# Altium schematic symbol library 3.3 - STC系列单片机.SchLib: 92 symbols (part 1 of 2)
Pins are listed as number, name and electrical type; pins without a type are passive.

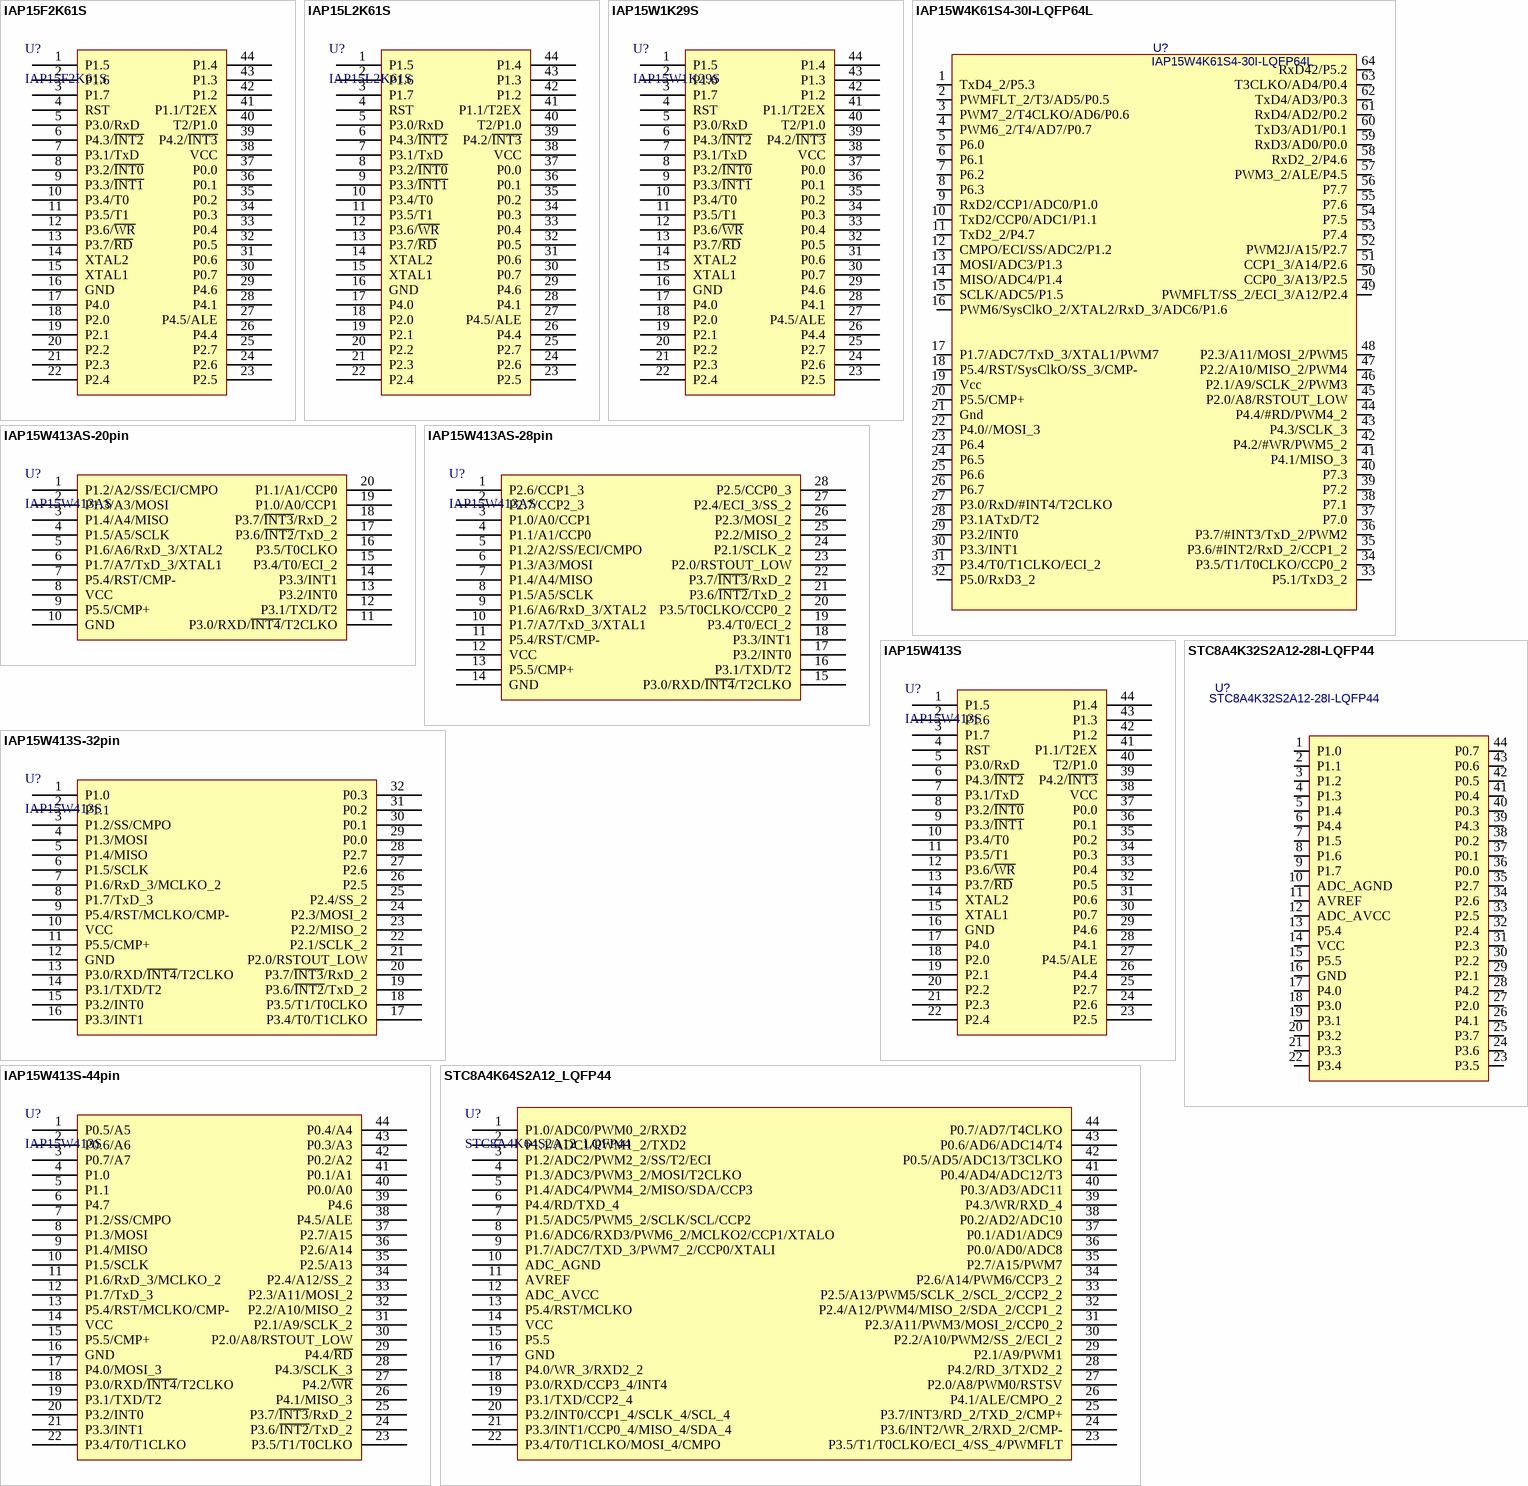
[diagram p0: symbols IAP15F2K61S to STC8A4K64S2A12_LQFP44]

## IAP15F2K61S
designator U?
STC单片机; 联系卖家 免费查找封装: 唯一出售店铺网址https://shop463601444.taobao.com; 封装库来自淘宝卖家：黄晶宝石: 其他店铺购入均为盗版封装库，请立即申请退款，本店现金奖励200~1000元; BOM名称: STC单片机
footprint LQFP44 10X10_N (10*10*1.4(长宽高，除引脚）)
footprint LQFP44 10X10_L (10*10*1.4(长宽高，除引脚）)
footprint LQFP44 10X10_M (10*10*1.4(长宽高，除引脚）)
pins: 1 P1.5, 2 P1.6, 3 P1.7, 4 RST, 5 P3.0/RxD, 6 P4.3/~{INT2}, 7 P3.1/TxD, 8 P3.2/~{INT0}, 9 P3.3/~{INT1}, 10 P3.4/T0, 11 P3.5/T1, 12 P3.6/~{WR}, 13 P3.7/~{RD}, 14 XTAL2, 15 XTAL1, 16 GND, 17 P4.0, 18 P2.0, 19 P2.1, 20 P2.2, 21 P2.3, 22 P2.4, 23 P2.5, 24 P2.6, 25 P2.7, 26 P4.4, 27 P4.5/ALE, 28 P4.1, 29 P4.6, 30 P0.7, 31 P0.6, 32 P0.5, 33 P0.4, 34 P0.3, 35 P0.2, 36 P0.1, 37 P0.0, 38 VCC, 39 P4.2/~{INT3}, 40 T2/P1.0, 41 P1.1/T2EX, 42 P1.2, 43 P1.3, 44 P1.4

## IAP15L2K61S
designator U?
STC单片机; 联系卖家 免费查找封装: 唯一出售店铺网址https://shop463601444.taobao.com; 封装库来自淘宝卖家：黄晶宝石: 其他店铺购入均为盗版封装库，请立即申请退款，本店现金奖励200~1000元; BOM名称: STC单片机
footprint LQFP44 10X10_N (10*10*1.4(长宽高，除引脚）)
footprint LQFP44 10X10_L (10*10*1.4(长宽高，除引脚）)
footprint LQFP44 10X10_M (10*10*1.4(长宽高，除引脚）)
pins: 1 P1.5, 2 P1.6, 3 P1.7, 4 RST, 5 P3.0/RxD, 6 P4.3/~{INT2}, 7 P3.1/TxD, 8 P3.2/~{INT0}, 9 P3.3/~{INT1}, 10 P3.4/T0, 11 P3.5/T1, 12 P3.6/~{WR}, 13 P3.7/~{RD}, 14 XTAL2, 15 XTAL1, 16 GND, 17 P4.0, 18 P2.0, 19 P2.1, 20 P2.2, 21 P2.3, 22 P2.4, 23 P2.5, 24 P2.6, 25 P2.7, 26 P4.4, 27 P4.5/ALE, 28 P4.1, 29 P4.6, 30 P0.7, 31 P0.6, 32 P0.5, 33 P0.4, 34 P0.3, 35 P0.2, 36 P0.1, 37 P0.0, 38 VCC, 39 P4.2/~{INT3}, 40 T2/P1.0, 41 P1.1/T2EX, 42 P1.2, 43 P1.3, 44 P1.4

## IAP15W1K29S
designator U?
STC单片机; 联系卖家 免费查找封装: 唯一出售店铺网址https://shop463601444.taobao.com; 封装库来自淘宝卖家：黄晶宝石: 其他店铺购入均为盗版封装库，请立即申请退款，本店现金奖励200~1000元; BOM名称: STC单片机
footprint LQFP44 10X10_N (10*10*1.4(长宽高，除引脚）)
footprint LQFP44 10X10_L (10*10*1.4(长宽高，除引脚）)
footprint LQFP44 10X10_M (10*10*1.4(长宽高，除引脚）)
pins: 1 P1.5, 2 P1.6, 3 P1.7, 4 RST, 5 P3.0/RxD, 6 P4.3/~{INT2}, 7 P3.1/TxD, 8 P3.2/~{INT0}, 9 P3.3/~{INT1}, 10 P3.4/T0, 11 P3.5/T1, 12 P3.6/~{WR}, 13 P3.7/~{RD}, 14 XTAL2, 15 XTAL1, 16 GND, 17 P4.0, 18 P2.0, 19 P2.1, 20 P2.2, 21 P2.3, 22 P2.4, 23 P2.5, 24 P2.6, 25 P2.7, 26 P4.4, 27 P4.5/ALE, 28 P4.1, 29 P4.6, 30 P0.7, 31 P0.6, 32 P0.5, 33 P0.4, 34 P0.3, 35 P0.2, 36 P0.1, 37 P0.0, 38 VCC, 39 P4.2/~{INT3}, 40 T2/P1.0, 41 P1.1/T2EX, 42 P1.2, 43 P1.3, 44 P1.4

## IAP15W4K61S4-30I-LQFP64L
designator U?
STC单片机; 联系卖家 免费查找封装: 唯一出售店铺网址https://shop463601444.taobao.com; 封装库来自淘宝卖家：黄晶宝石: 其他店铺购入均为盗版封装库，请立即申请退款，本店现金奖励200~1000元; BOM名称: IAP15W4K61S4-30I-LQFP64L
footprint LQFP64-P80 (14x14mm，0.8mm       淘宝ID:黄晶宝石)
pins: 1 TxD4_2/P5.3, 2 PWMFLT_2/T3/AD5/P0.5, 3 PWM7_2/T4CLKO/AD6/P0.6, 4 PWM6_2/T4/AD7/P0.7, 5 P6.0, 6 P6.1, 7 P6.2, 8 P6.3, 9 RxD2/CCP1/ADC0/P1.0, 10 TxD2/CCP0/ADC1/P1.1, 11 TxD2_2/P4.7, 12 CMPO/ECI/SS/ADC2/P1.2, 13 MOSI/ADC3/P1.3, 14 MISO/ADC4/P1.4, 15 SCLK/ADC5/P1.5, 16 PWM6/SysClkO_2/XTAL2/RxD_3/ADC6/P1.6, 17 P1.7/ADC7/TxD_3/XTAL1/PWM7, 18 P5.4/RST/SysClkO/SS_3/CMP-, 19 Vcc, 20 P5.5/CMP+, 21 Gnd, 22 P4.0//MOSI_3, 23 P6.4, 24 P6.5, 25 P6.6, 26 P6.7, 27 P3.0/RxD/#INT4/T2CLKO, 28 P3.1ATxD/T2, 29 P3.2/INT0, 30 P3.3/INT1, 31 P3.4/T0/T1CLKO/ECI_2, 32 P5.0/RxD3_2, 33 P5.1/TxD3_2, 34 P3.5/T1/T0CLKO/CCP0_2, 35 P3.6/#INT2/RxD_2/CCP1_2, 36 P3.7/#INT3/TxD_2/PWM2, 37 P7.0, 38 P7.1, 39 P7.2, 40 P7.3, 41 P4.1/MISO_3, 42 P4.2/#WR/PWM5_2, 43 P4.3/SCLK_3, 44 P4.4/#RD/PWM4_2, 45 P2.0/A8/RSTOUT_LOW, 46 P2.1/A9/SCLK_2/PWM3, 47 P2.2/A10/MISO_2/PWM4, 48 P2.3/A11/MOSI_2/PWM5, 49 PWMFLT/SS_2/ECI_3/A12/P2.4, 50 CCP0_3/A13/P2.5, 51 CCP1_3/A14/P2.6, 52 PWM2J/A15/P2.7, 53 P7.4, 54 P7.5, 55 P7.6, 56 P7.7, 57 PWM3_2/ALE/P4.5, 58 RxD2_2/P4.6, 59 RxD3/AD0/P0.0, 60 TxD3/AD1/P0.1, 61 RxD4/AD2/P0.2, 62 TxD4/AD3/P0.3, 63 T3CLKO/AD4/P0.4, 64 RxD42/P5.2

## IAP15W413AS-20pin
designator U?, comment IAP15W413AS
STC单片机; 联系卖家 免费查找封装: 唯一出售店铺网址https://shop463601444.taobao.com; 封装库来自淘宝卖家：黄晶宝石: 其他店铺购入均为盗版封装库，请立即申请退款，本店现金奖励200~1000元; BOM名称: STC单片机
footprint DIP20-300 (26.4*7.6*3.8(长宽高）)
footprint SOP20_L (13*10.6*2.6（长宽高）)
footprint SOP20_N (13*10.6*2.6（长宽高）)
footprint SOP20_M (13*10.6*2.6（长宽高）)
pins: 1 P1.2/A2/SS/ECI/CMPO, 2 P1.3/A3/MOSI, 3 P1.4/A4/MISO, 4 P1.5/A5/SCLK, 5 P1.6/A6/RxD_3/XTAL2, 6 P1.7/A7/TxD_3/XTAL1, 7 P5.4/RST/CMP-, 8 VCC, 9 P5.5/CMP+, 10 GND, 11 P3.0/RXD/~{INT4}/T2CLKO, 12 P3.1/TXD/T2, 13 P3.2/INT0, 14 P3.3/INT1, 15 P3.4/T0/ECI_2, 16 P3.5/T0CLKO, 17 P3.6/~{INT2}/TxD_2, 18 P3.7/~{INT3}/RxD_2, 19 P1.0/A0/CCP1, 20 P1.1/A1/CCP0

## IAP15W413AS-28pin
designator U?, comment IAP15W413AS
STC单片机; 联系卖家 免费查找封装: 唯一出售店铺网址https://shop463601444.taobao.com; 封装库来自淘宝卖家：黄晶宝石: 其他店铺购入均为盗版封装库，请立即申请退款，本店现金奖励200~1000元; BOM名称: STC单片机
footprint DIP28-400 (36*10.16*3.8(长宽高）)
footprint SOP28_L (17.9*10.6*2.6mm（长宽高）)
footprint SOP28_N (17.9*10.6*2.6mm（长宽高）)
footprint SOP28_M (17.9*10.6*2.6mm（长宽高）)
pins: 1 P2.6/CCP1_3, 2 P2.7/CCP2_3, 3 P1.0/A0/CCP1, 4 P1.1/A1/CCP0, 5 P1.2/A2/SS/ECI/CMPO, 6 P1.3/A3/MOSI, 7 P1.4/A4/MISO, 8 P1.5/A5/SCLK, 9 P1.6/A6/RxD_3/XTAL2, 10 P1.7/A7/TxD_3/XTAL1, 11 P5.4/RST/CMP-, 12 VCC, 13 P5.5/CMP+, 14 GND, 15 P3.0/RXD/~{INT4}/T2CLKO, 16 P3.1/TXD/T2, 17 P3.2/INT0, 18 P3.3/INT1, 19 P3.4/T0/ECI_2, 20 P3.5/T0CLKO/CCP0_2, 21 P3.6/~{INT2}/TxD_2, 22 P3.7/~{INT3}/RxD_2, 23 P2.0/RSTOUT_LOW, 24 P2.1/SCLK_2, 25 P2.2/MISO_2, 26 P2.3/MOSI_2, 27 P2.4/ECI_3/SS_2, 28 P2.5/CCP0_3

## IAP15W413S
designator U?
STC单片机; 联系卖家 免费查找封装: 唯一出售店铺网址https://shop463601444.taobao.com; 封装库来自淘宝卖家：黄晶宝石: 其他店铺购入均为盗版封装库，请立即申请退款，本店现金奖励200~1000元; BOM名称: STC单片机
footprint LQFP44 10X10_N (10*10*1.4(长宽高，除引脚）)
footprint LQFP44 10X10_L (10*10*1.4(长宽高，除引脚）)
footprint LQFP44 10X10_M (10*10*1.4(长宽高，除引脚）)
pins: 1 P1.5, 2 P1.6, 3 P1.7, 4 RST, 5 P3.0/RxD, 6 P4.3/~{INT2}, 7 P3.1/TxD, 8 P3.2/~{INT0}, 9 P3.3/~{INT1}, 10 P3.4/T0, 11 P3.5/T1, 12 P3.6/~{WR}, 13 P3.7/~{RD}, 14 XTAL2, 15 XTAL1, 16 GND, 17 P4.0, 18 P2.0, 19 P2.1, 20 P2.2, 21 P2.3, 22 P2.4, 23 P2.5, 24 P2.6, 25 P2.7, 26 P4.4, 27 P4.5/ALE, 28 P4.1, 29 P4.6, 30 P0.7, 31 P0.6, 32 P0.5, 33 P0.4, 34 P0.3, 35 P0.2, 36 P0.1, 37 P0.0, 38 VCC, 39 P4.2/~{INT3}, 40 T2/P1.0, 41 P1.1/T2EX, 42 P1.2, 43 P1.3, 44 P1.4

## IAP15W413S-32pin
designator U?, comment IAP15W413S
STC单片机; 联系卖家 免费查找封装: 唯一出售店铺网址https://shop463601444.taobao.com; 封装库来自淘宝卖家：黄晶宝石: 其他店铺购入均为盗版封装库，请立即申请退款，本店现金奖励200~1000元; BOM名称: STC单片机
footprint LQFP32 7x7_L (7*7*1.4(长宽高，除引脚）)
footprint LQFP32 7x7_N (7*7*1.4(长宽高，除引脚）)
footprint LQFP32 7x7_M (7*7*1.4(长宽高，除引脚）)
pins: 1 P1.0, 2 P1.1, 3 P1.2/SS/CMPO, 4 P1.3/MOSI, 5 P1.4/MISO, 6 P1.5/SCLK, 7 P1.6/RxD_3/MCLKO_2, 8 P1.7/TxD_3, 9 P5.4/RST/MCLKO/CMP-, 10 VCC, 11 P5.5/CMP+, 12 GND, 13 P3.0/RXD/~{INT4}/T2CLKO, 14 P3.1/TXD/T2, 15 P3.2/INT0, 16 P3.3/INT1, 17 P3.4/T0/T1CLKO, 18 P3.5/T1/T0CLKO, 19 P3.6/~{INT2}/TxD_2, 20 P3.7/~{INT3}/RxD_2, 21 P2.0/RSTOUT_LOW, 22 P2.1/SCLK_2, 23 P2.2/MISO_2, 24 P2.3/MOSI_2, 25 P2.4/SS_2, 26 P2.5, 27 P2.6, 28 P2.7, 29 P0.0, 30 P0.1, 31 P0.2, 32 P0.3

## IAP15W413S-44pin
designator U?, comment IAP15W413S
STC单片机; 联系卖家 免费查找封装: 唯一出售店铺网址https://shop463601444.taobao.com; 封装库来自淘宝卖家：黄晶宝石: 其他店铺购入均为盗版封装库，请立即申请退款，本店现金奖励200~1000元; BOM名称: STC单片机
footprint LQFP44 10x10_L (10*10*1.4(长宽高，除引脚）)
footprint LQFP44 10x10_N (10*10*1.4(长宽高，除引脚）)
footprint LQFP44 10x10_M (10*10*1.4(长宽高，除引脚）)
pins: 1 P0.5/A5, 2 P0.6/A6, 3 P0.7/A7, 4 P1.0, 5 P1.1, 6 P4.7, 7 P1.2/SS/CMPO, 8 P1.3/MOSI, 9 P1.4/MISO, 10 P1.5/SCLK, 11 P1.6/RxD_3/MCLKO_2, 12 P1.7/TxD_3, 13 P5.4/RST/MCLKO/CMP-, 14 VCC, 15 P5.5/CMP+, 16 GND, 17 P4.0/MOSI_3, 18 P3.0/RXD/~{INT4}/T2CLKO, 19 P3.1/TXD/T2, 20 P3.2/INT0, 21 P3.3/INT1, 22 P3.4/T0/T1CLKO, 23 P3.5/T1/T0CLKO, 24 P3.6/~{INT2}/TxD_2, 25 P3.7/~{INT3}/RxD_2, 26 P4.1/MISO_3, 27 P4.2/~{WR}, 28 P4.3/SCLK_3, 29 P4.4/~{RD}, 30 P2.0/A8/RSTOUT_LOW, 31 P2.1/A9/SCLK_2, 32 P2.2/A10/MISO_2, 33 P2.3/A11/MOSI_2, 34 P2.4/A12/SS_2, 35 P2.5/A13, 36 P2.6/A14, 37 P2.7/A15, 38 P4.5/ALE, 39 P4.6, 40 P0.0/A0, 41 P0.1/A1, 42 P0.2/A2, 43 P0.3/A3, 44 P0.4/A4

## STC8A4K32S2A12-28I-LQFP44
designator U?
STC单片机; 联系卖家 免费查找封装: 唯一出售店铺网址https://shop463601444.taobao.com; 封装库来自淘宝卖家：黄晶宝石: 其他店铺购入均为盗版封装库，请立即申请退款，本店现金奖励200~1000元; BOM名称: STC单片机
footprint LQFP44_N (44脚，体宽10x10mm，脚距0.8mm)
pins: 1 P1.0, 2 P1.1, 3 P1.2, 4 P1.3, 5 P1.4, 6 P4.4, 7 P1.5, 8 P1.6, 9 P1.7, 10 ADC_AGND, 11 AVREF, 12 ADC_AVCC, 13 P5.4, 14 VCC, 15 P5.5, 16 GND, 17 P4.0, 18 P3.0, 19 P3.1, 20 P3.2, 21 P3.3, 22 P3.4, 23 P3.5, 24 P3.6, 25 P3.7, 26 P4.1, 27 P2.0, 28 P4.2, 29 P2.1, 30 P2.2, 31 P2.3, 32 P2.4, 33 P2.5, 34 P2.6, 35 P2.7, 36 P0.0, 37 P0.1, 38 P0.2, 39 P4.3, 40 P0.3, 41 P0.4, 42 P0.5, 43 P0.6, 44 P0.7

## STC8A4K64S2A12_LQFP44
designator U?
STC单片机; 封装库来自淘宝卖家：黄晶宝石: 其他店铺购入均为盗版封装库，请立即申请退款，本店现金奖励200~1000元; 联系卖家 免费查找封装: 唯一出售店铺网址https://shop463601444.taobao.com; BOM名称: STC单片机
footprint LQFP44_P80 (44脚，体宽10x10mm，脚距0.8mm)
pins: 1 P1.0/ADC0/PWM0_2/RXD2, 2 P1.1/ADC1/PWM1_2/TXD2, 3 P1.2/ADC2/PWM2_2/SS/T2/ECI, 4 P1.3/ADC3/PWM3_2/MOSI/T2CLKO, 5 P1.4/ADC4/PWM4_2/MISO/SDA/CCP3, 6 P4.4/RD/TXD_4, 7 P1.5/ADC5/PWM5_2/SCLK/SCL/CCP2, 8 P1.6/ADC6/RXD3/PWM6_2/MCLKO2/CCP1/XTALO, 9 P1.7/ADC7/TXD_3/PWM7_2/CCP0/XTALI, 10 ADC_AGND, 11 AVREF, 12 ADC_AVCC, 13 P5.4/RST/MCLKO, 14 VCC, 15 P5.5, 16 GND, 17 P4.0/WR_3/RXD2_2, 18 P3.0/RXD/CCP3_4/INT4, 19 P3.1/TXD/CCP2_4, 20 P3.2/INT0/CCP1_4/SCLK_4/SCL_4, 21 P3.3/INT1/CCP0_4/MISO_4/SDA_4, 22 P3.4/T0/T1CLKO/MOSI_4/CMPO, 23 P3.5/T1/T0CLKO/ECI_4/SS_4/PWMFLT, 24 P3.6/INT2/WR_2/RXD_2/CMP-, 25 P3.7/INT3/RD_2/TXD_2/CMP+, 26 P4.1/ALE/CMPO_2, 27 P2.0/A8/PWM0/RSTSV, 28 P4.2/RD_3/TXD2_2, 29 P2.1/A9/PWM1, 30 P2.2/A10/PWM2/SS_2/ECI_2, 31 P2.3/A11/PWM3/MOSI_2/CCP0_2, 32 P2.4/A12/PWM4/MISO_2/SDA_2/CCP1_2, 33 P2.5/A13/PWM5/SCLK_2/SCL_2/CCP2_2, 34 P2.6/A14/PWM6/CCP3_2, 35 P2.7/A15/PWM7, 36 P0.0/AD0/ADC8, 37 P0.1/AD1/ADC9, 38 P0.2/AD2/ADC10, 39 P4.3/WR/RXD_4, 40 P0.3/AD3/ADC11, 41 P0.4/AD4/ADC12/T3, 42 P0.5/AD5/ADC13/T3CLKO, 43 P0.6/AD6/ADC14/T4, 44 P0.7/AD7/T4CLKO

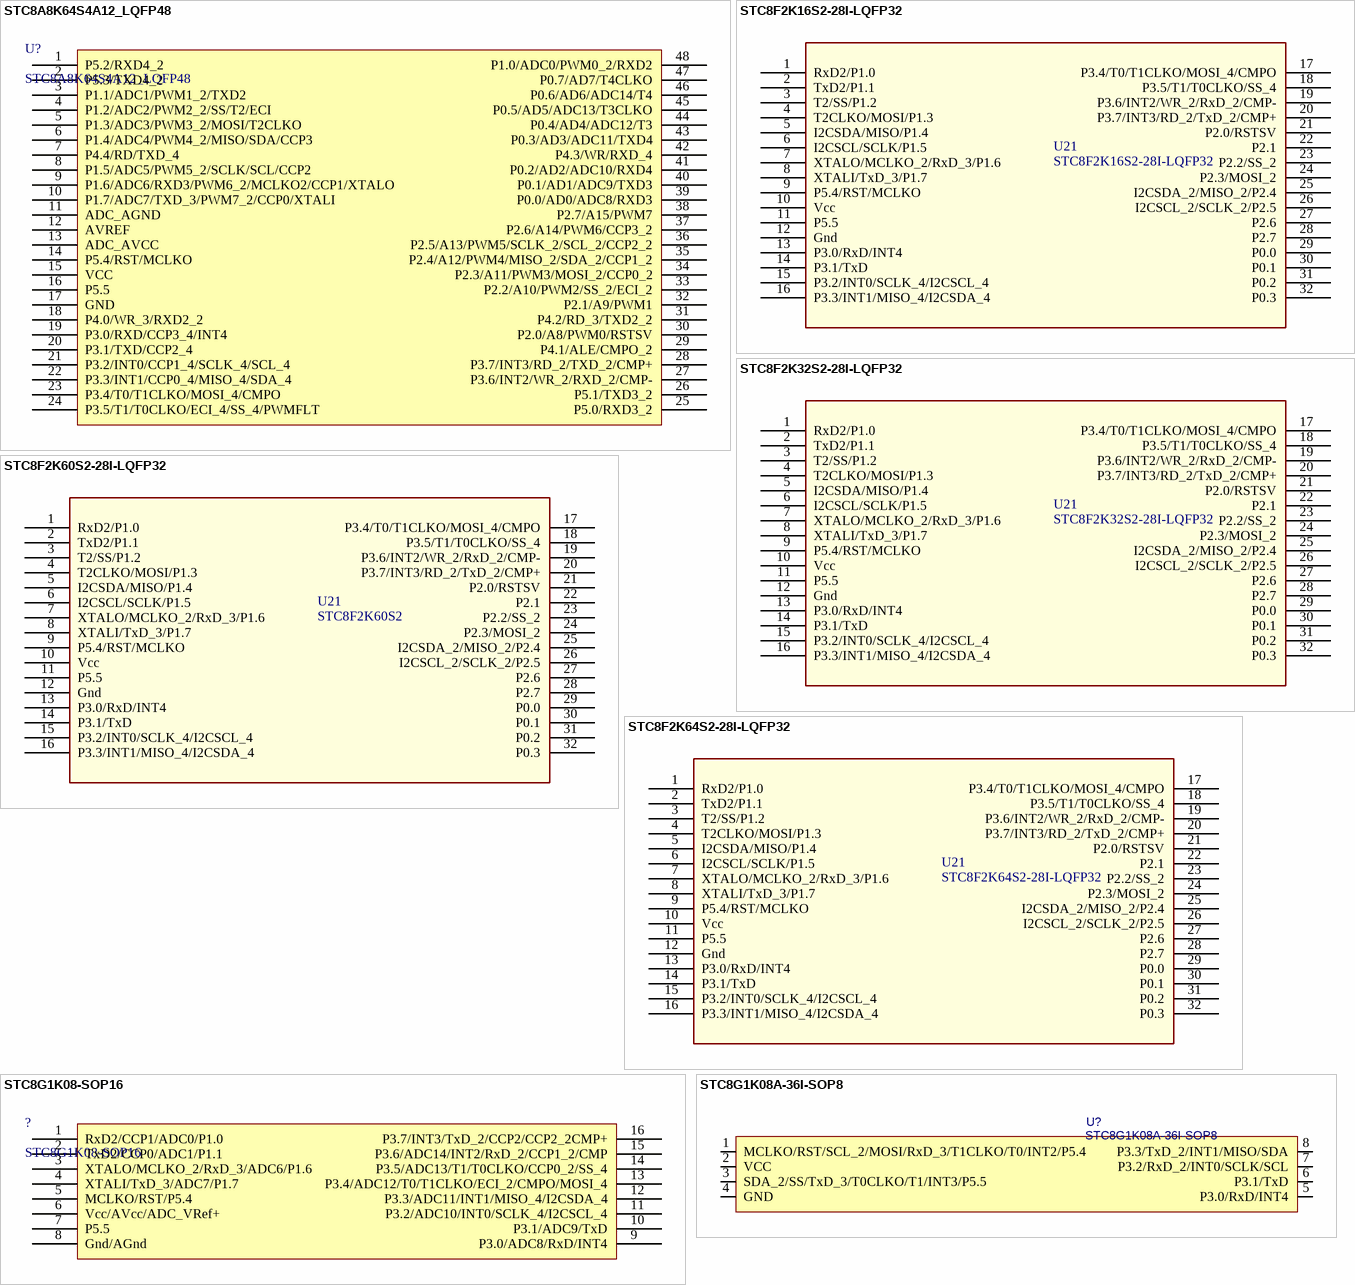
[diagram p1: symbols STC8A8K64S4A12_LQFP48 to STC8G1K08A-36I-SOP8]

## STC8A8K64S4A12_LQFP48
designator U?
STC单片机; 封装库来自淘宝卖家：黄晶宝石: 其他店铺购入均为盗版封装库，请立即申请退款，本店现金奖励200~1000元; 联系卖家 免费查找封装: 唯一出售店铺网址https://shop463601444.taobao.com; BOM名称: STC单片机
footprint STM-LQFP48_M (QFP, 48-Leads, Body 7x7mm, Pitch 0.5mm, IPC Low Density联系卖家免费查找封装)
footprint STM-LQFP48_N (QFP, 48-Leads, Body 7x7mm, Pitch 0.5mm, IPC Medium Density封装库来自淘宝 ID：黄晶宝石)
footprint STM-LQFP48_L (QFP, 48-Leads, Body 7x7mm, Pitch 0.5mm, IPC High Density)
pins: 1 P5.2/RXD4_2, 2 P5.3/TXD4_2, 3 P1.1/ADC1/PWM1_2/TXD2, 4 P1.2/ADC2/PWM2_2/SS/T2/ECI, 5 P1.3/ADC3/PWM3_2/MOSI/T2CLKO, 6 P1.4/ADC4/PWM4_2/MISO/SDA/CCP3, 7 P4.4/RD/TXD_4, 8 P1.5/ADC5/PWM5_2/SCLK/SCL/CCP2, 9 P1.6/ADC6/RXD3/PWM6_2/MCLKO2/CCP1/XTALO, 10 P1.7/ADC7/TXD_3/PWM7_2/CCP0/XTALI, 11 ADC_AGND, 12 AVREF, 13 ADC_AVCC, 14 P5.4/RST/MCLKO, 15 VCC, 16 P5.5, 17 GND, 18 P4.0/WR_3/RXD2_2, 19 P3.0/RXD/CCP3_4/INT4, 20 P3.1/TXD/CCP2_4, 21 P3.2/INT0/CCP1_4/SCLK_4/SCL_4, 22 P3.3/INT1/CCP0_4/MISO_4/SDA_4, 23 P3.4/T0/T1CLKO/MOSI_4/CMPO, 24 P3.5/T1/T0CLKO/ECI_4/SS_4/PWMFLT, 25 P5.0/RXD3_2, 26 P5.1/TXD3_2, 27 P3.6/INT2/WR_2/RXD_2/CMP-, 28 P3.7/INT3/RD_2/TXD_2/CMP+, 29 P4.1/ALE/CMPO_2, 30 P2.0/A8/PWM0/RSTSV, 31 P4.2/RD_3/TXD2_2, 32 P2.1/A9/PWM1, 33 P2.2/A10/PWM2/SS_2/ECI_2, 34 P2.3/A11/PWM3/MOSI_2/CCP0_2, 35 P2.4/A12/PWM4/MISO_2/SDA_2/CCP1_2, 36 P2.5/A13/PWM5/SCLK_2/SCL_2/CCP2_2, 37 P2.6/A14/PWM6/CCP3_2, 38 P2.7/A15/PWM7, 39 P0.0/AD0/ADC8/RXD3, 40 P0.1/AD1/ADC9/TXD3, 41 P0.2/AD2/ADC10/RXD4, 42 P4.3/WR/RXD_4, 43 P0.3/AD3/ADC11/TXD4, 44 P0.4/AD4/ADC12/T3, 45 P0.5/AD5/ADC13/T3CLKO, 46 P0.6/AD6/ADC14/T4, 47 P0.7/AD7/T4CLKO, 48 P1.0/ADC0/PWM0_2/RXD2

## STC8F2K16S2-28I-LQFP32
designator U21
STC单片机; 联系卖家 免费查找封装: 唯一出售店铺网址https://shop463601444.taobao.com; 封装库来自淘宝卖家：黄晶宝石: 其他店铺购入均为盗版封装库，请立即申请退款，本店现金奖励200~1000元; BOM名称: STC单片机
footprint STM-LQFP32_N (QFP, 32-Leads, Body 7x7mm, Pitch 0.8mm, IPC Medium Density封装库来自淘宝 ID：黄晶宝石)
pins: 1 RxD2/P1.0, 2 TxD2/P1.1, 3 T2/SS/P1.2, 4 T2CLKO/MOSI/P1.3, 5 I2CSDA/MISO/P1.4, 6 I2CSCL/SCLK/P1.5, 7 XTALO/MCLKO_2/RxD_3/P1.6, 8 XTALI/TxD_3/P1.7, 9 P5.4/RST/MCLKO, 10 Vcc, 11 P5.5, 12 Gnd, 13 P3.0/RxD/INT4, 14 P3.1/TxD, 15 P3.2/INT0/SCLK_4/I2CSCL_4, 16 P3.3/INT1/MISO_4/I2CSDA_4, 17 P3.4/T0/T1CLKO/MOSI_4/CMPO, 18 P3.5/T1/T0CLKO/SS_4, 19 P3.6/INT2/WR_2/RxD_2/CMP-, 20 P3.7/INT3/RD_2/TxD_2/CMP+, 21 P2.0/RSTSV, 22 P2.1, 23 P2.2/SS_2, 24 P2.3/MOSI_2, 25 I2CSDA_2/MISO_2/P2.4, 26 I2CSCL_2/SCLK_2/P2.5, 27 P2.6, 28 P2.7, 29 P0.0, 30 P0.1, 31 P0.2, 32 P0.3

## STC8F2K32S2-28I-LQFP32
designator U21
STC单片机; 联系卖家 免费查找封装: 唯一出售店铺网址https://shop463601444.taobao.com; 封装库来自淘宝卖家：黄晶宝石: 其他店铺购入均为盗版封装库，请立即申请退款，本店现金奖励200~1000元; BOM名称: STC单片机
footprint STM-LQFP32_N (QFP, 32-Leads, Body 7x7mm, Pitch 0.8mm, IPC Medium Density封装库来自淘宝 ID：黄晶宝石)
pins: 1 RxD2/P1.0, 2 TxD2/P1.1, 3 T2/SS/P1.2, 4 T2CLKO/MOSI/P1.3, 5 I2CSDA/MISO/P1.4, 6 I2CSCL/SCLK/P1.5, 7 XTALO/MCLKO_2/RxD_3/P1.6, 8 XTALI/TxD_3/P1.7, 9 P5.4/RST/MCLKO, 10 Vcc, 11 P5.5, 12 Gnd, 13 P3.0/RxD/INT4, 14 P3.1/TxD, 15 P3.2/INT0/SCLK_4/I2CSCL_4, 16 P3.3/INT1/MISO_4/I2CSDA_4, 17 P3.4/T0/T1CLKO/MOSI_4/CMPO, 18 P3.5/T1/T0CLKO/SS_4, 19 P3.6/INT2/WR_2/RxD_2/CMP-, 20 P3.7/INT3/RD_2/TxD_2/CMP+, 21 P2.0/RSTSV, 22 P2.1, 23 P2.2/SS_2, 24 P2.3/MOSI_2, 25 I2CSDA_2/MISO_2/P2.4, 26 I2CSCL_2/SCLK_2/P2.5, 27 P2.6, 28 P2.7, 29 P0.0, 30 P0.1, 31 P0.2, 32 P0.3

## STC8F2K60S2-28I-LQFP32
designator U21, comment STC8F2K60S2
STC单片机; 联系卖家 免费查找封装: 唯一出售店铺网址https://shop463601444.taobao.com; 封装库来自淘宝卖家：黄晶宝石: 其他店铺购入均为盗版封装库，请立即申请退款，本店现金奖励200~1000元; BOM名称: STC单片机
footprint STM-LQFP32_N (QFP, 32-Leads, Body 7x7mm, Pitch 0.8mm, IPC Medium Density封装库来自淘宝 ID：黄晶宝石)
pins: 1 RxD2/P1.0, 2 TxD2/P1.1, 3 T2/SS/P1.2, 4 T2CLKO/MOSI/P1.3, 5 I2CSDA/MISO/P1.4, 6 I2CSCL/SCLK/P1.5, 7 XTALO/MCLKO_2/RxD_3/P1.6, 8 XTALI/TxD_3/P1.7, 9 P5.4/RST/MCLKO, 10 Vcc, 11 P5.5, 12 Gnd, 13 P3.0/RxD/INT4, 14 P3.1/TxD, 15 P3.2/INT0/SCLK_4/I2CSCL_4, 16 P3.3/INT1/MISO_4/I2CSDA_4, 17 P3.4/T0/T1CLKO/MOSI_4/CMPO, 18 P3.5/T1/T0CLKO/SS_4, 19 P3.6/INT2/WR_2/RxD_2/CMP-, 20 P3.7/INT3/RD_2/TxD_2/CMP+, 21 P2.0/RSTSV, 22 P2.1, 23 P2.2/SS_2, 24 P2.3/MOSI_2, 25 I2CSDA_2/MISO_2/P2.4, 26 I2CSCL_2/SCLK_2/P2.5, 27 P2.6, 28 P2.7, 29 P0.0, 30 P0.1, 31 P0.2, 32 P0.3

## STC8F2K64S2-28I-LQFP32
designator U21
STC单片机; 联系卖家 免费查找封装: 唯一出售店铺网址https://shop463601444.taobao.com; 封装库来自淘宝卖家：黄晶宝石: 其他店铺购入均为盗版封装库，请立即申请退款，本店现金奖励200~1000元; BOM名称: STC单片机
footprint STM-LQFP32_N (QFP, 32-Leads, Body 7x7mm, Pitch 0.8mm, IPC Medium Density封装库来自淘宝 ID：黄晶宝石)
pins: 1 RxD2/P1.0, 2 TxD2/P1.1, 3 T2/SS/P1.2, 4 T2CLKO/MOSI/P1.3, 5 I2CSDA/MISO/P1.4, 6 I2CSCL/SCLK/P1.5, 7 XTALO/MCLKO_2/RxD_3/P1.6, 8 XTALI/TxD_3/P1.7, 9 P5.4/RST/MCLKO, 10 Vcc, 11 P5.5, 12 Gnd, 13 P3.0/RxD/INT4, 14 P3.1/TxD, 15 P3.2/INT0/SCLK_4/I2CSCL_4, 16 P3.3/INT1/MISO_4/I2CSDA_4, 17 P3.4/T0/T1CLKO/MOSI_4/CMPO, 18 P3.5/T1/T0CLKO/SS_4, 19 P3.6/INT2/WR_2/RxD_2/CMP-, 20 P3.7/INT3/RD_2/TxD_2/CMP+, 21 P2.0/RSTSV, 22 P2.1, 23 P2.2/SS_2, 24 P2.3/MOSI_2, 25 I2CSDA_2/MISO_2/P2.4, 26 I2CSCL_2/SCLK_2/P2.5, 27 P2.6, 28 P2.7, 29 P0.0, 30 P0.1, 31 P0.2, 32 P0.3

## STC8G1K08-SOP16
designator ?
STC单片机; 封装库来自淘宝卖家：黄晶宝石: 其他店铺购入均为盗版封装库，请立即申请退款，本店现金奖励200~1000元; 联系卖家 免费查找封装: 唯一出售店铺网址https://shop463601444.taobao.com; BOM名称: STC单片机
footprint SOIC-16 (联系卖家 免费查找封装)
pins: 1 RxD2/CCP1/ADC0/P1.0, 2 TxD2/CCP0/ADC1/P1.1, 3 XTALO/MCLKO_2/RxD_3/ADC6/P1.6, 4 XTALI/TxD_3/ADC7/P1.7, 5 MCLKO/RST/P5.4, 6 Vcc/AVcc/ADC_VRef+, 7 P5.5, 8 Gnd/AGnd, 9 P3.0/ADC8/RxD/INT4, 10 P3.1/ADC9/TxD, 11 P3.2/ADC10/INT0/SCLK_4/I2CSCL_4, 12 P3.3/ADC11/INT1/MISO_4/I2CSDA_4, 13 P3.4/ADC12/T0/T1CLKO/ECI_2/CMPO/MOSI_4, 14 P3.5/ADC13/T1/T0CLKO/CCP0_2/SS_4, 15 P3.6/ADC14/INT2/RxD_2/CCP1_2/CMP, 16 P3.7/INT3/TxD_2/CCP2/CCP2_2CMP+

## STC8G1K08A-36I-SOP8
designator U?
STC单片机; 封装库来自淘宝卖家：黄晶宝石: 其他店铺购入均为盗版封装库，请立即申请退款，本店现金奖励200~1000元; 联系卖家 免费查找封装: 唯一出售店铺网址https://shop463601444.taobao.com; BOM名称: STC8G1K08A-36I-SOP8
footprint SOIC-8
pins: 1 MCLKO/RST/SCL_2/MOSI/RxD_3/T1CLKO/T0/INT2/P5.4, 2 VCC, 3 SDA_2/SS/TxD_3/T0CLKO/T1/INT3/P5.5, 4 GND, 5 P3.0/RxD/INT4, 6 P3.1/TxD, 7 P3.2/RxD_2/INT0/SCLK/SCL, 8 P3.3/TxD_2/INT1/MISO/SDA

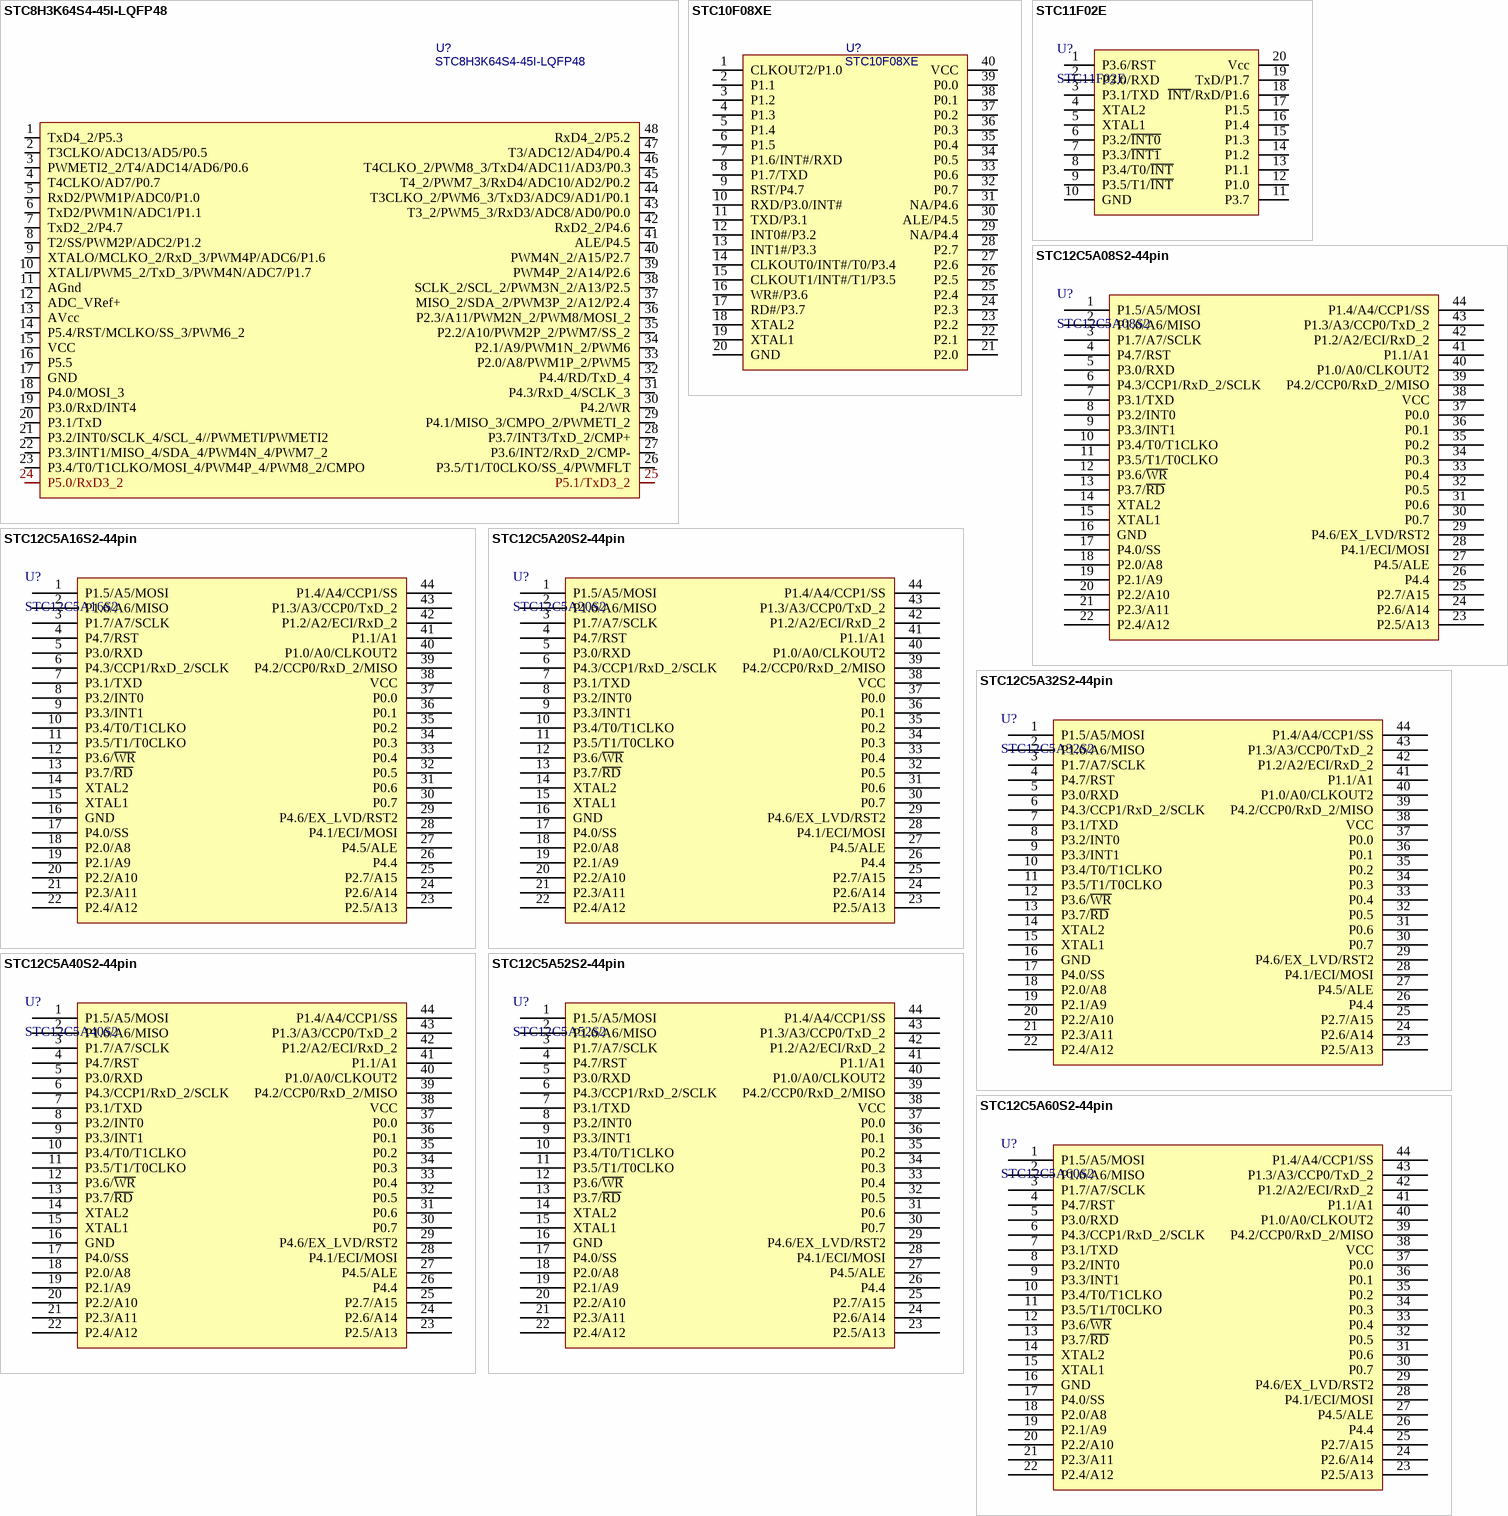
[diagram p2: symbols STC8H3K64S4-45I-LQFP48 to STC12C5A60S2-44pin]

## STC8H3K64S4-45I-LQFP48
designator U?
STC单片机; 封装库来自淘宝卖家：黄晶宝石: 其他店铺购入均为盗版封装库，请立即申请退款，本店现金奖励200~1000元; 联系卖家 免费查找封装: 唯一出售店铺网址https://shop463601444.taobao.com; BOM名称: STC单片机
footprint LQFP48_N (Thin QFP, 48-Leads, Body 7x7mm, Pitch 0.5mm, IPC Medium Density 封装库来自淘宝 ID：黄晶宝石)
footprint LQFP48_L (Thin QFP, 48-Leads, Body 7x7mm, Pitch 0.5mm, IPC High Density  联系卖家 免费查找封装)
footprint LQFP48_M (Thin QFP, 48-Leads, Body 7x7mm, Pitch 0.5mm, IPC Low Density  联系卖家 免费查找封装)
pins: 1 TxD4_2/P5.3, 2 T3CLKO/ADC13/AD5/P0.5, 3 PWMETI2_2/T4/ADC14/AD6/P0.6, 4 T4CLKO/AD7/P0.7, 5 RxD2/PWM1P/ADC0/P1.0, 6 TxD2/PWM1N/ADC1/P1.1, 7 TxD2_2/P4.7, 8 T2/SS/PWM2P/ADC2/P1.2, 9 XTALO/MCLKO_2/RxD_3/PWM4P/ADC6/P1.6, 10 XTALI/PWM5_2/TxD_3/PWM4N/ADC7/P1.7, 11 AGnd, 12 ADC_VRef+, 13 AVcc, 14 P5.4/RST/MCLKO/SS_3/PWM6_2, 15 VCC, 16 P5.5, 17 GND, 18 P4.0/MOSI_3, 19 P3.0/RxD/INT4, 20 P3.1/TxD, 21 P3.2/INT0/SCLK_4/SCL_4//PWMETI/PWMETI2, 22 P3.3/INT1/MISO_4/SDA_4/PWM4N_4/PWM7_2, 23 P3.4/T0/T1CLKO/MOSI_4/PWM4P_4/PWM8_2/CMPO, 24 P5.0/RxD3_2, 25 P5.1/TxD3_2, 26 P3.5/T1/T0CLKO/SS_4/PWMFLT, 27 P3.6/INT2/RxD_2/CMP-, 28 P3.7/INT3/TxD_2/CMP+, 29 P4.1/MISO_3/CMPO_2/PWMETI_2, 30 P4.2/WR, 31 P4.3/RxD_4/SCLK_3, 32 P4.4/RD/TxD_4, 33 P2.0/A8/PWM1P_2/PWM5, 34 P2.1/A9/PWM1N_2/PWM6, 35 P2.2/A10/PWM2P_2/PWM7/SS_2, 36 P2.3/A11/PWM2N_2/PWM8/MOSI_2, 37 MISO_2/SDA_2/PWM3P_2/A12/P2.4, 38 SCLK_2/SCL_2/PWM3N_2/A13/P2.5, 39 PWM4P_2/A14/P2.6, 40 PWM4N_2/A15/P2.7, 41 ALE/P4.5, 42 RxD2_2/P4.6, 43 T3_2/PWM5_3/RxD3/ADC8/AD0/P0.0, 44 T3CLKO_2/PWM6_3/TxD3/ADC9/AD1/P0.1, 45 T4_2/PWM7_3/RxD4/ADC10/AD2/P0.2, 46 T4CLKO_2/PWM8_3/TxD4/ADC11/AD3/P0.3, 47 T3/ADC12/AD4/P0.4, 48 RxD4_2/P5.2

## STC10F08XE
designator U?
STC单片机; 封装库来自淘宝卖家：黄晶宝石: 其他店铺购入均为盗版封装库，请立即申请退款，本店现金奖励200~1000元; 联系卖家 免费查找封装: 唯一出售店铺网址https://shop463601444.taobao.com; BOM名称: STC单片机
footprint DIP-40 (52*15.2*4mm(长宽高)                联系卖家 免费查找封装)
pins: 1 CLKOUT2/P1.0, 2 P1.1, 3 P1.2, 4 P1.3, 5 P1.4, 6 P1.5, 7 P1.6/INT#/RXD, 8 P1.7/TXD, 9 RST/P4.7, 10 RXD/P3.0/INT#, 11 TXD/P3.1, 12 INT0#/P3.2, 13 INT1#/P3.3, 14 CLKOUT0/INT#/T0/P3.4, 15 CLKOUT1/INT#/T1/P3.5, 16 WR#/P3.6, 17 RD#/P3.7, 18 XTAL2, 19 XTAL1, 20 GND, 21 P2.0, 22 P2.1, 23 P2.2, 24 P2.3, 25 P2.4, 26 P2.5, 27 P2.6, 28 P2.7, 29 NA/P4.4, 30 ALE/P4.5, 31 NA/P4.6, 32 P0.7, 33 P0.6, 34 P0.5, 35 P0.4, 36 P0.3, 37 P0.2, 38 P0.1, 39 P0.0, 40 VCC

## STC11F02E
designator U?
STC单片机; 联系卖家 免费查找封装: 唯一出售店铺网址https://shop463601444.taobao.com; 封装库来自淘宝卖家：黄晶宝石: 其他店铺购入均为盗版封装库，请立即申请退款，本店现金奖励200~1000元; BOM名称: STC单片机
footprint DIP20-300 (26.4*7.6*3.8(长宽高）)
footprint SOP20_N (13*10.6*2.6（长宽高）)
footprint SOP20_L (13*10.6*2.6（长宽高）)
footprint SOP20_M (13*10.6*2.6（长宽高）)
pins: 1 P3.6/RST, 2 P3.0/RXD, 3 P3.1/TXD, 4 XTAL2, 5 XTAL1, 6 P3.2/~{INT0}, 7 P3.3/~{INT1}, 8 P3.4/T0/~{INT}, 9 P3.5/T1/~{INT}, 10 GND, 11 P3.7, 12 P1.0, 13 P1.1, 14 P1.2, 15 P1.3, 16 P1.4, 17 P1.5, 18 ~{INT}/RxD/P1.6, 19 TxD/P1.7, 20 Vcc

## STC12C5A08S2-44pin
designator U?, comment STC12C5A08S2
STC单片机; 联系卖家 免费查找封装: 唯一出售店铺网址https://shop463601444.taobao.com; 封装库来自淘宝卖家：黄晶宝石: 其他店铺购入均为盗版封装库，请立即申请退款，本店现金奖励200~1000元; BOM名称: STC单片机
footprint LQFP44 10x10_L (10*10*1.4(长宽高，除引脚）)
footprint LQFP44 10x10_N (10*10*1.4(长宽高，除引脚）)
footprint LQFP44 10x10_M (10*10*1.4(长宽高，除引脚）)
pins: 1 P1.5/A5/MOSI, 2 P1.6/A6/MISO, 3 P1.7/A7/SCLK, 4 P4.7/RST, 5 P3.0/RXD, 6 P4.3/CCP1/RxD_2/SCLK, 7 P3.1/TXD, 8 P3.2/INT0, 9 P3.3/INT1, 10 P3.4/T0/T1CLKO, 11 P3.5/T1/T0CLKO, 12 P3.6/~{WR}, 13 P3.7/~{RD}, 14 XTAL2, 15 XTAL1, 16 GND, 17 P4.0/SS, 18 P2.0/A8, 19 P2.1/A9, 20 P2.2/A10, 21 P2.3/A11, 22 P2.4/A12, 23 P2.5/A13, 24 P2.6/A14, 25 P2.7/A15, 26 P4.4, 27 P4.5/ALE, 28 P4.1/ECI/MOSI, 29 P4.6/EX_LVD/RST2, 30 P0.7, 31 P0.6, 32 P0.5, 33 P0.4, 34 P0.3, 35 P0.2, 36 P0.1, 37 P0.0, 38 VCC, 39 P4.2/CCP0/RxD_2/MISO, 40 P1.0/A0/CLKOUT2, 41 P1.1/A1, 42 P1.2/A2/ECI/RxD_2, 43 P1.3/A3/CCP0/TxD_2, 44 P1.4/A4/CCP1/SS

## STC12C5A16S2-44pin
designator U?, comment STC12C5A16S2
STC单片机; 联系卖家 免费查找封装: 唯一出售店铺网址https://shop463601444.taobao.com; 封装库来自淘宝卖家：黄晶宝石: 其他店铺购入均为盗版封装库，请立即申请退款，本店现金奖励200~1000元; BOM名称: STC单片机
footprint LQFP44 10x10_L (10*10*1.4(长宽高，除引脚）)
footprint LQFP44 10x10_N (10*10*1.4(长宽高，除引脚）)
footprint LQFP44 10x10_M (10*10*1.4(长宽高，除引脚）)
pins: 1 P1.5/A5/MOSI, 2 P1.6/A6/MISO, 3 P1.7/A7/SCLK, 4 P4.7/RST, 5 P3.0/RXD, 6 P4.3/CCP1/RxD_2/SCLK, 7 P3.1/TXD, 8 P3.2/INT0, 9 P3.3/INT1, 10 P3.4/T0/T1CLKO, 11 P3.5/T1/T0CLKO, 12 P3.6/~{WR}, 13 P3.7/~{RD}, 14 XTAL2, 15 XTAL1, 16 GND, 17 P4.0/SS, 18 P2.0/A8, 19 P2.1/A9, 20 P2.2/A10, 21 P2.3/A11, 22 P2.4/A12, 23 P2.5/A13, 24 P2.6/A14, 25 P2.7/A15, 26 P4.4, 27 P4.5/ALE, 28 P4.1/ECI/MOSI, 29 P4.6/EX_LVD/RST2, 30 P0.7, 31 P0.6, 32 P0.5, 33 P0.4, 34 P0.3, 35 P0.2, 36 P0.1, 37 P0.0, 38 VCC, 39 P4.2/CCP0/RxD_2/MISO, 40 P1.0/A0/CLKOUT2, 41 P1.1/A1, 42 P1.2/A2/ECI/RxD_2, 43 P1.3/A3/CCP0/TxD_2, 44 P1.4/A4/CCP1/SS

## STC12C5A20S2-44pin
designator U?, comment STC12C5A20S2
STC单片机; 联系卖家 免费查找封装: 唯一出售店铺网址https://shop463601444.taobao.com; 封装库来自淘宝卖家：黄晶宝石: 其他店铺购入均为盗版封装库，请立即申请退款，本店现金奖励200~1000元; BOM名称: STC单片机
footprint LQFP44 10x10_L (10*10*1.4(长宽高，除引脚）)
footprint LQFP44 10x10_N (10*10*1.4(长宽高，除引脚）)
footprint LQFP44 10x10_M (10*10*1.4(长宽高，除引脚）)
pins: 1 P1.5/A5/MOSI, 2 P1.6/A6/MISO, 3 P1.7/A7/SCLK, 4 P4.7/RST, 5 P3.0/RXD, 6 P4.3/CCP1/RxD_2/SCLK, 7 P3.1/TXD, 8 P3.2/INT0, 9 P3.3/INT1, 10 P3.4/T0/T1CLKO, 11 P3.5/T1/T0CLKO, 12 P3.6/~{WR}, 13 P3.7/~{RD}, 14 XTAL2, 15 XTAL1, 16 GND, 17 P4.0/SS, 18 P2.0/A8, 19 P2.1/A9, 20 P2.2/A10, 21 P2.3/A11, 22 P2.4/A12, 23 P2.5/A13, 24 P2.6/A14, 25 P2.7/A15, 26 P4.4, 27 P4.5/ALE, 28 P4.1/ECI/MOSI, 29 P4.6/EX_LVD/RST2, 30 P0.7, 31 P0.6, 32 P0.5, 33 P0.4, 34 P0.3, 35 P0.2, 36 P0.1, 37 P0.0, 38 VCC, 39 P4.2/CCP0/RxD_2/MISO, 40 P1.0/A0/CLKOUT2, 41 P1.1/A1, 42 P1.2/A2/ECI/RxD_2, 43 P1.3/A3/CCP0/TxD_2, 44 P1.4/A4/CCP1/SS

## STC12C5A32S2-44pin
designator U?, comment STC12C5A32S2
STC单片机; 联系卖家 免费查找封装: 唯一出售店铺网址https://shop463601444.taobao.com; 封装库来自淘宝卖家：黄晶宝石: 其他店铺购入均为盗版封装库，请立即申请退款，本店现金奖励200~1000元; BOM名称: STC单片机
footprint LQFP44 10x10_L (10*10*1.4(长宽高，除引脚）)
footprint LQFP44 10x10_N (10*10*1.4(长宽高，除引脚）)
footprint LQFP44 10x10_M (10*10*1.4(长宽高，除引脚）)
pins: 1 P1.5/A5/MOSI, 2 P1.6/A6/MISO, 3 P1.7/A7/SCLK, 4 P4.7/RST, 5 P3.0/RXD, 6 P4.3/CCP1/RxD_2/SCLK, 7 P3.1/TXD, 8 P3.2/INT0, 9 P3.3/INT1, 10 P3.4/T0/T1CLKO, 11 P3.5/T1/T0CLKO, 12 P3.6/~{WR}, 13 P3.7/~{RD}, 14 XTAL2, 15 XTAL1, 16 GND, 17 P4.0/SS, 18 P2.0/A8, 19 P2.1/A9, 20 P2.2/A10, 21 P2.3/A11, 22 P2.4/A12, 23 P2.5/A13, 24 P2.6/A14, 25 P2.7/A15, 26 P4.4, 27 P4.5/ALE, 28 P4.1/ECI/MOSI, 29 P4.6/EX_LVD/RST2, 30 P0.7, 31 P0.6, 32 P0.5, 33 P0.4, 34 P0.3, 35 P0.2, 36 P0.1, 37 P0.0, 38 VCC, 39 P4.2/CCP0/RxD_2/MISO, 40 P1.0/A0/CLKOUT2, 41 P1.1/A1, 42 P1.2/A2/ECI/RxD_2, 43 P1.3/A3/CCP0/TxD_2, 44 P1.4/A4/CCP1/SS

## STC12C5A40S2-44pin
designator U?, comment STC12C5A40S2
STC单片机; 联系卖家 免费查找封装: 唯一出售店铺网址https://shop463601444.taobao.com; 封装库来自淘宝卖家：黄晶宝石: 其他店铺购入均为盗版封装库，请立即申请退款，本店现金奖励200~1000元; BOM名称: STC单片机
footprint LQFP44 10x10_L (10*10*1.4(长宽高，除引脚）)
footprint LQFP44 10x10_N (10*10*1.4(长宽高，除引脚）)
footprint LQFP44 10x10_M (10*10*1.4(长宽高，除引脚）)
pins: 1 P1.5/A5/MOSI, 2 P1.6/A6/MISO, 3 P1.7/A7/SCLK, 4 P4.7/RST, 5 P3.0/RXD, 6 P4.3/CCP1/RxD_2/SCLK, 7 P3.1/TXD, 8 P3.2/INT0, 9 P3.3/INT1, 10 P3.4/T0/T1CLKO, 11 P3.5/T1/T0CLKO, 12 P3.6/~{WR}, 13 P3.7/~{RD}, 14 XTAL2, 15 XTAL1, 16 GND, 17 P4.0/SS, 18 P2.0/A8, 19 P2.1/A9, 20 P2.2/A10, 21 P2.3/A11, 22 P2.4/A12, 23 P2.5/A13, 24 P2.6/A14, 25 P2.7/A15, 26 P4.4, 27 P4.5/ALE, 28 P4.1/ECI/MOSI, 29 P4.6/EX_LVD/RST2, 30 P0.7, 31 P0.6, 32 P0.5, 33 P0.4, 34 P0.3, 35 P0.2, 36 P0.1, 37 P0.0, 38 VCC, 39 P4.2/CCP0/RxD_2/MISO, 40 P1.0/A0/CLKOUT2, 41 P1.1/A1, 42 P1.2/A2/ECI/RxD_2, 43 P1.3/A3/CCP0/TxD_2, 44 P1.4/A4/CCP1/SS

## STC12C5A52S2-44pin
designator U?, comment STC12C5A52S2
STC单片机; 联系卖家 免费查找封装: 唯一出售店铺网址https://shop463601444.taobao.com; 封装库来自淘宝卖家：黄晶宝石: 其他店铺购入均为盗版封装库，请立即申请退款，本店现金奖励200~1000元; BOM名称: STC单片机
footprint LQFP44 10x10_L (10*10*1.4(长宽高，除引脚）)
footprint LQFP44 10x10_N (10*10*1.4(长宽高，除引脚）)
footprint LQFP44 10x10_M (10*10*1.4(长宽高，除引脚）)
pins: 1 P1.5/A5/MOSI, 2 P1.6/A6/MISO, 3 P1.7/A7/SCLK, 4 P4.7/RST, 5 P3.0/RXD, 6 P4.3/CCP1/RxD_2/SCLK, 7 P3.1/TXD, 8 P3.2/INT0, 9 P3.3/INT1, 10 P3.4/T0/T1CLKO, 11 P3.5/T1/T0CLKO, 12 P3.6/~{WR}, 13 P3.7/~{RD}, 14 XTAL2, 15 XTAL1, 16 GND, 17 P4.0/SS, 18 P2.0/A8, 19 P2.1/A9, 20 P2.2/A10, 21 P2.3/A11, 22 P2.4/A12, 23 P2.5/A13, 24 P2.6/A14, 25 P2.7/A15, 26 P4.4, 27 P4.5/ALE, 28 P4.1/ECI/MOSI, 29 P4.6/EX_LVD/RST2, 30 P0.7, 31 P0.6, 32 P0.5, 33 P0.4, 34 P0.3, 35 P0.2, 36 P0.1, 37 P0.0, 38 VCC, 39 P4.2/CCP0/RxD_2/MISO, 40 P1.0/A0/CLKOUT2, 41 P1.1/A1, 42 P1.2/A2/ECI/RxD_2, 43 P1.3/A3/CCP0/TxD_2, 44 P1.4/A4/CCP1/SS

## STC12C5A60S2-44pin
designator U?, comment STC12C5A60S2
STC单片机; 联系卖家 免费查找封装: 唯一出售店铺网址https://shop463601444.taobao.com; 封装库来自淘宝卖家：黄晶宝石: 其他店铺购入均为盗版封装库，请立即申请退款，本店现金奖励200~1000元; BOM名称: STC单片机
footprint LQFP44 10x10_L (10*10*1.4(长宽高，除引脚）)
footprint LQFP44 10x10_N (10*10*1.4(长宽高，除引脚）)
footprint LQFP44 10x10_M (10*10*1.4(长宽高，除引脚）)
pins: 1 P1.5/A5/MOSI, 2 P1.6/A6/MISO, 3 P1.7/A7/SCLK, 4 P4.7/RST, 5 P3.0/RXD, 6 P4.3/CCP1/RxD_2/SCLK, 7 P3.1/TXD, 8 P3.2/INT0, 9 P3.3/INT1, 10 P3.4/T0/T1CLKO, 11 P3.5/T1/T0CLKO, 12 P3.6/~{WR}, 13 P3.7/~{RD}, 14 XTAL2, 15 XTAL1, 16 GND, 17 P4.0/SS, 18 P2.0/A8, 19 P2.1/A9, 20 P2.2/A10, 21 P2.3/A11, 22 P2.4/A12, 23 P2.5/A13, 24 P2.6/A14, 25 P2.7/A15, 26 P4.4, 27 P4.5/ALE, 28 P4.1/ECI/MOSI, 29 P4.6/EX_LVD/RST2, 30 P0.7, 31 P0.6, 32 P0.5, 33 P0.4, 34 P0.3, 35 P0.2, 36 P0.1, 37 P0.0, 38 VCC, 39 P4.2/CCP0/RxD_2/MISO, 40 P1.0/A0/CLKOUT2, 41 P1.1/A1, 42 P1.2/A2/ECI/RxD_2, 43 P1.3/A3/CCP0/TxD_2, 44 P1.4/A4/CCP1/SS

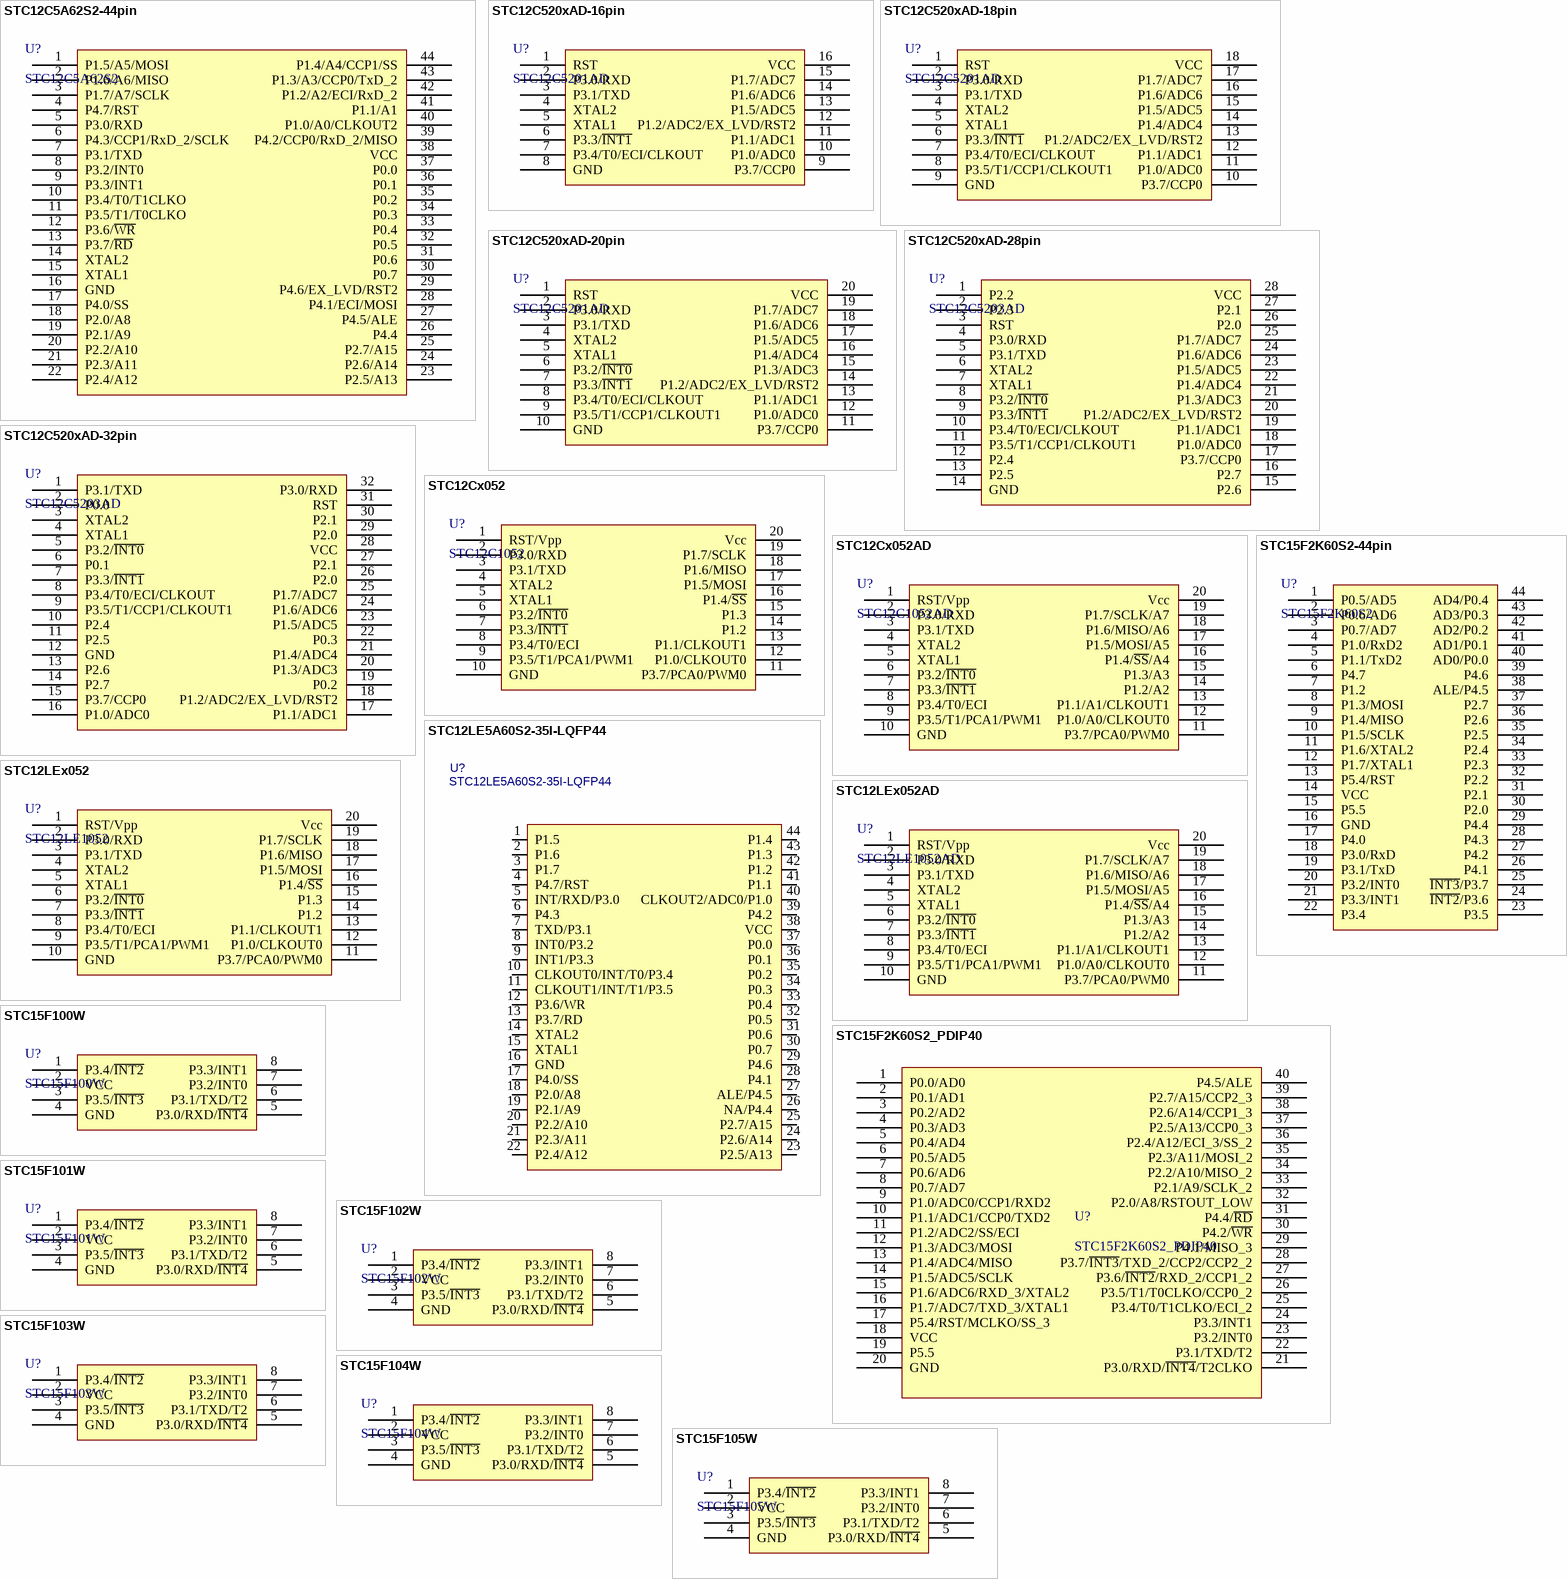
[diagram p3: symbols STC12C5A62S2-44pin to STC15F105W]

## STC12C5A62S2-44pin
designator U?, comment STC12C5A62S2
STC单片机; 联系卖家 免费查找封装: 唯一出售店铺网址https://shop463601444.taobao.com; 封装库来自淘宝卖家：黄晶宝石: 其他店铺购入均为盗版封装库，请立即申请退款，本店现金奖励200~1000元; BOM名称: STC单片机
footprint LQFP44 10x10_L (10*10*1.4(长宽高，除引脚）)
footprint LQFP44 10x10_N (10*10*1.4(长宽高，除引脚）)
footprint LQFP44 10x10_M (10*10*1.4(长宽高，除引脚）)
pins: 1 P1.5/A5/MOSI, 2 P1.6/A6/MISO, 3 P1.7/A7/SCLK, 4 P4.7/RST, 5 P3.0/RXD, 6 P4.3/CCP1/RxD_2/SCLK, 7 P3.1/TXD, 8 P3.2/INT0, 9 P3.3/INT1, 10 P3.4/T0/T1CLKO, 11 P3.5/T1/T0CLKO, 12 P3.6/~{WR}, 13 P3.7/~{RD}, 14 XTAL2, 15 XTAL1, 16 GND, 17 P4.0/SS, 18 P2.0/A8, 19 P2.1/A9, 20 P2.2/A10, 21 P2.3/A11, 22 P2.4/A12, 23 P2.5/A13, 24 P2.6/A14, 25 P2.7/A15, 26 P4.4, 27 P4.5/ALE, 28 P4.1/ECI/MOSI, 29 P4.6/EX_LVD/RST2, 30 P0.7, 31 P0.6, 32 P0.5, 33 P0.4, 34 P0.3, 35 P0.2, 36 P0.1, 37 P0.0, 38 VCC, 39 P4.2/CCP0/RxD_2/MISO, 40 P1.0/A0/CLKOUT2, 41 P1.1/A1, 42 P1.2/A2/ECI/RxD_2, 43 P1.3/A3/CCP0/TxD_2, 44 P1.4/A4/CCP1/SS

## STC12C520xAD-16pin
designator U?, comment STC12C5201AD
STC带AD单片机; 联系卖家 免费查找封装: 唯一出售店铺网址https://shop463601444.taobao.com; 封装库来自淘宝卖家：黄晶宝石: 其他店铺购入均为盗版封装库，请立即申请退款，本店现金奖励200~1000元; BOM名称: STC带AD单片机
footprint DIP16-300 (19.3*7.6*3.8(长宽高）)
footprint SOP16_L (10.3*6.2*1.8mm（长宽高）)
footprint SOP16_N (10.3*6.2*1.8mm（长宽高）)
footprint SOP16_M (10.3*6.2*1.8mm（长宽高）)
pins: 1 RST, 2 P3.0/RXD, 3 P3.1/TXD, 4 XTAL2, 5 XTAL1, 6 P3.3/~{INT1}, 7 P3.4/T0/ECI/CLKOUT, 8 GND, 9 P3.7/CCP0, 10 P1.0/ADC0, 11 P1.1/ADC1, 12 P1.2/ADC2/EX_LVD/RST2, 13 P1.5/ADC5, 14 P1.6/ADC6, 15 P1.7/ADC7, 16 VCC

## STC12C520xAD-18pin
designator U?, comment STC12C5201AD
STC带AD单片机; 联系卖家 免费查找封装: 唯一出售店铺网址https://shop463601444.taobao.com; 封装库来自淘宝卖家：黄晶宝石: 其他店铺购入均为盗版封装库，请立即申请退款，本店现金奖励200~1000元; BOM名称: STC带AD单片机
footprint DIP18-300 (23*7.6*3.8(长宽高）)
pins: 1 RST, 2 P3.0/RXD, 3 P3.1/TXD, 4 XTAL2, 5 XTAL1, 6 P3.3/~{INT1}, 7 P3.4/T0/ECI/CLKOUT, 8 P3.5/T1/CCP1/CLKOUT1, 9 GND, 10 P3.7/CCP0, 11 P1.0/ADC0, 12 P1.1/ADC1, 13 P1.2/ADC2/EX_LVD/RST2, 14 P1.4/ADC4, 15 P1.5/ADC5, 16 P1.6/ADC6, 17 P1.7/ADC7, 18 VCC

## STC12C520xAD-20pin
designator U?, comment STC12C5201AD
STC带AD单片机; 联系卖家 免费查找封装: 唯一出售店铺网址https://shop463601444.taobao.com; 封装库来自淘宝卖家：黄晶宝石: 其他店铺购入均为盗版封装库，请立即申请退款，本店现金奖励200~1000元; BOM名称: STC带AD单片机
footprint DIP20-300 (26.4*7.6*3.8(长宽高）)
footprint SOP20_L (13*10.6*2.6（长宽高）)
footprint SOP20_N (13*10.6*2.6（长宽高）)
footprint SOP20_M (13*10.6*2.6（长宽高）)
pins: 1 RST, 2 P3.0/RXD, 3 P3.1/TXD, 4 XTAL2, 5 XTAL1, 6 P3.2/~{INT0}, 7 P3.3/~{INT1}, 8 P3.4/T0/ECI/CLKOUT, 9 P3.5/T1/CCP1/CLKOUT1, 10 GND, 11 P3.7/CCP0, 12 P1.0/ADC0, 13 P1.1/ADC1, 14 P1.2/ADC2/EX_LVD/RST2, 15 P1.3/ADC3, 16 P1.4/ADC4, 17 P1.5/ADC5, 18 P1.6/ADC6, 19 P1.7/ADC7, 20 VCC

## STC12C520xAD-28pin
designator U?, comment STC12C5203AD
STC带AD单片机; 联系卖家 免费查找封装: 唯一出售店铺网址https://shop463601444.taobao.com; 封装库来自淘宝卖家：黄晶宝石: 其他店铺购入均为盗版封装库，请立即申请退款，本店现金奖励200~1000元; BOM名称: STC带AD单片机
footprint DIP28-400 (36*10.16*3.8(长宽高）)
footprint SOP28_L (17.9*10.6*2.6mm（长宽高）)
footprint SOP28_N (17.9*10.6*2.6mm（长宽高）)
footprint SOP28_M (17.9*10.6*2.6mm（长宽高）)
pins: 1 P2.2, 2 P2.3, 3 RST, 4 P3.0/RXD, 5 P3.1/TXD, 6 XTAL2, 7 XTAL1, 8 P3.2/~{INT0}, 9 P3.3/~{INT1}, 10 P3.4/T0/ECI/CLKOUT, 11 P3.5/T1/CCP1/CLKOUT1, 12 P2.4, 13 P2.5, 14 GND, 15 P2.6, 16 P2.7, 17 P3.7/CCP0, 18 P1.0/ADC0, 19 P1.1/ADC1, 20 P1.2/ADC2/EX_LVD/RST2, 21 P1.3/ADC3, 22 P1.4/ADC4, 23 P1.5/ADC5, 24 P1.6/ADC6, 25 P1.7/ADC7, 26 P2.0, 27 P2.1, 28 VCC

## STC12C520xAD-32pin
designator U?, comment STC12C5203AD
STC带AD单片机; 联系卖家 免费查找封装: 唯一出售店铺网址https://shop463601444.taobao.com; 封装库来自淘宝卖家：黄晶宝石: 其他店铺购入均为盗版封装库，请立即申请退款，本店现金奖励200~1000元; BOM名称: STC带AD单片机
footprint LQFP32 7x7_L (7*7*1.4(长宽高，除引脚）)
footprint LQFP32 7x7_N (7*7*1.4(长宽高，除引脚）)
footprint LQFP32 7x7_M (7*7*1.4(长宽高，除引脚）)
pins: 1 P3.1/TXD, 2 P0.0, 3 XTAL2, 4 XTAL1, 5 P3.2/~{INT0}, 6 P0.1, 7 P3.3/~{INT1}, 8 P3.4/T0/ECI/CLKOUT, 9 P3.5/T1/CCP1/CLKOUT1, 10 P2.4, 11 P2.5, 12 GND, 13 P2.6, 14 P2.7, 15 P3.7/CCP0, 16 P1.0/ADC0, 17 P1.1/ADC1, 18 P1.2/ADC2/EX_LVD/RST2, 19 P0.2, 20 P1.3/ADC3, 21 P1.4/ADC4, 22 P0.3, 23 P1.5/ADC5, 24 P1.6/ADC6, 25 P1.7/ADC7, 26 P2.0, 27 P2.1, 28 VCC, 29 P2.0, 30 P2.1, 31 RST, 32 P3.0/RXD

## STC12Cx052
designator U?, comment STC12C1052
STC单片机; 联系卖家 免费查找封装: 唯一出售店铺网址https://shop463601444.taobao.com; 封装库来自淘宝卖家：黄晶宝石: 其他店铺购入均为盗版封装库，请立即申请退款，本店现金奖励200~1000元; BOM名称: STC单片机
footprint DIP20-300 (26.4*7.6*3.8(长宽高）)
footprint SOP20_L (13*10.6*2.6（长宽高）)
footprint SOP20_M (13*10.6*2.6（长宽高）)
footprint SOP20_N (13*10.6*2.6（长宽高）)
pins: 1 RST/Vpp, 2 P3.0/RXD, 3 P3.1/TXD, 4 XTAL2, 5 XTAL1, 6 P3.2/~{INT0}, 7 P3.3/~{INT1}, 8 P3.4/T0/ECI, 9 P3.5/T1/PCA1/PWM1, 10 GND, 11 P3.7/PCA0/PWM0, 12 P1.0/CLKOUT0, 13 P1.1/CLKOUT1, 14 P1.2, 15 P1.3, 16 P1.4/~{SS}, 17 P1.5/MOSI, 18 P1.6/MISO, 19 P1.7/SCLK, 20 Vcc

## STC12Cx052AD
designator U?, comment STC12C1052AD
STC带AD单片机; 联系卖家 免费查找封装: 唯一出售店铺网址https://shop463601444.taobao.com; 封装库来自淘宝卖家：黄晶宝石: 其他店铺购入均为盗版封装库，请立即申请退款，本店现金奖励200~1000元; BOM名称: STC带AD单片机
footprint DIP20-300 (26.4*7.6*3.8(长宽高）)
footprint SOP20_L (13*10.6*2.6（长宽高）)
footprint SOP20_M (13*10.6*2.6（长宽高）)
footprint SOP20_N (13*10.6*2.6（长宽高）)
pins: 1 RST/Vpp, 2 P3.0/RXD, 3 P3.1/TXD, 4 XTAL2, 5 XTAL1, 6 P3.2/~{INT0}, 7 P3.3/~{INT1}, 8 P3.4/T0/ECI, 9 P3.5/T1/PCA1/PWM1, 10 GND, 11 P3.7/PCA0/PWM0, 12 P1.0/A0/CLKOUT0, 13 P1.1/A1/CLKOUT1, 14 P1.2/A2, 15 P1.3/A3, 16 P1.4/~{SS}/A4, 17 P1.5/MOSI/A5, 18 P1.6/MISO/A6, 19 P1.7/SCLK/A7, 20 Vcc

## STC12LE5A60S2-35I-LQFP44
designator U?
STC单片机; 封装库来自淘宝卖家：黄晶宝石: 其他店铺购入均为盗版封装库，请立即申请退款，本店现金奖励200~1000元; 联系卖家 免费查找封装: 唯一出售店铺网址https://shop463601444.taobao.com; BOM名称: STC单片机
footprint LQFP44_P80 (44脚，体宽10x10mm，脚距0.8mm)
pins: 1 P1.5, 2 P1.6, 3 P1.7, 4 P4.7/RST, 5 INT/RXD/P3.0, 6 P4.3, 7 TXD/P3.1, 8 INT0/P3.2, 9 INT1/P3.3, 10 CLKOUT0/INT/T0/P3.4, 11 CLKOUT1/INT/T1/P3.5, 12 P3.6/WR, 13 P3.7/RD, 14 XTAL2, 15 XTAL1, 16 GND, 17 P4.0/SS, 18 P2.0/A8, 19 P2.1/A9, 20 P2.2/A10, 21 P2.3/A11, 22 P2.4/A12, 23 P2.5/A13, 24 P2.6/A14, 25 P2.7/A15, 26 NA/P4.4, 27 ALE/P4.5, 28 P4.1, 29 P4.6, 30 P0.7, 31 P0.6, 32 P0.5, 33 P0.4, 34 P0.3, 35 P0.2, 36 P0.1, 37 P0.0, 38 VCC, 39 P4.2, 40 CLKOUT2/ADC0/P1.0, 41 P1.1, 42 P1.2, 43 P1.3, 44 P1.4

## STC12LEx052
designator U?, comment STC12LE1052
STC单片机; 联系卖家 免费查找封装: 唯一出售店铺网址https://shop463601444.taobao.com; 封装库来自淘宝卖家：黄晶宝石: 其他店铺购入均为盗版封装库，请立即申请退款，本店现金奖励200~1000元; BOM名称: STC单片机
footprint DIP20-300 (26.4*7.6*3.8(长宽高）)
footprint SOP20_L (13*10.6*2.6（长宽高）)
footprint SOP20_M (13*10.6*2.6（长宽高）)
footprint SOP20_N (13*10.6*2.6（长宽高）)
pins: 1 RST/Vpp, 2 P3.0/RXD, 3 P3.1/TXD, 4 XTAL2, 5 XTAL1, 6 P3.2/~{INT0}, 7 P3.3/~{INT1}, 8 P3.4/T0/ECI, 9 P3.5/T1/PCA1/PWM1, 10 GND, 11 P3.7/PCA0/PWM0, 12 P1.0/CLKOUT0, 13 P1.1/CLKOUT1, 14 P1.2, 15 P1.3, 16 P1.4/~{SS}, 17 P1.5/MOSI, 18 P1.6/MISO, 19 P1.7/SCLK, 20 Vcc

## STC12LEx052AD
designator U?, comment STC12LE1052AD
STC带AD单片机; 联系卖家 免费查找封装: 唯一出售店铺网址https://shop463601444.taobao.com; 封装库来自淘宝卖家：黄晶宝石: 其他店铺购入均为盗版封装库，请立即申请退款，本店现金奖励200~1000元; BOM名称: STC带AD单片机
footprint DIP20-300 (26.4*7.6*3.8(长宽高）)
footprint SOP20_L (13*10.6*2.6（长宽高）)
footprint SOP20_M (13*10.6*2.6（长宽高）)
footprint SOP20_N (13*10.6*2.6（长宽高）)
pins: 1 RST/Vpp, 2 P3.0/RXD, 3 P3.1/TXD, 4 XTAL2, 5 XTAL1, 6 P3.2/~{INT0}, 7 P3.3/~{INT1}, 8 P3.4/T0/ECI, 9 P3.5/T1/PCA1/PWM1, 10 GND, 11 P3.7/PCA0/PWM0, 12 P1.0/A0/CLKOUT0, 13 P1.1/A1/CLKOUT1, 14 P1.2/A2, 15 P1.3/A3, 16 P1.4/~{SS}/A4, 17 P1.5/MOSI/A5, 18 P1.6/MISO/A6, 19 P1.7/SCLK/A7, 20 Vcc

## STC15F2K60S2-44pin
designator U?, comment STC15F2K60S2
STC单片机; 联系卖家 免费查找封装: 唯一出售店铺网址https://shop463601444.taobao.com; 封装库来自淘宝卖家：黄晶宝石: 其他店铺购入均为盗版封装库，请立即申请退款，本店现金奖励200~1000元; BOM名称: STC单片机
footprint LQFP44 10X10_L (44脚，体宽10x10mm，脚距0.8mm)
footprint LQFP44 10X10_M (44脚，体宽10x10mm，脚距0.8mm)
footprint LQFP44 10X10_N (44脚，体宽10x10mm，脚距0.8mm)
pins: 1 P0.5/AD5, 2 P0.6/AD6, 3 P0.7/AD7, 4 P1.0/RxD2, 5 P1.1/TxD2, 6 P4.7, 7 P1.2, 8 P1.3/MOSI, 9 P1.4/MISO, 10 P1.5/SCLK, 11 P1.6/XTAL2, 12 P1.7/XTAL1, 13 P5.4/RST, 14 VCC, 15 P5.5, 16 GND, 17 P4.0, 18 P3.0/RxD, 19 P3.1/TxD, 20 P3.2/INT0, 21 P3.3/INT1, 22 P3.4, 23 P3.5, 24 ~{INT2}/P3.6, 25 ~{INT3}/P3.7, 26 P4.1, 27 P4.2, 28 P4.3, 29 P4.4, 30 P2.0, 31 P2.1, 32 P2.2, 33 P2.3, 34 P2.4, 35 P2.5, 36 P2.6, 37 P2.7, 38 ALE/P4.5, 39 P4.6, 40 AD0/P0.0, 41 AD1/P0.1, 42 AD2/P0.2, 43 AD3/P0.3, 44 AD4/P0.4

## STC15F2K60S2_PDIP40
designator U?
STC单片机; 封装库来自淘宝卖家：黄晶宝石: 其他店铺购入均为盗版封装库，请立即申请退款，本店现金奖励200~1000元; 联系卖家 免费查找封装: 唯一出售店铺网址https://shop463601444.taobao.com; BOM名称: STC单片机
footprint DIP-40 (52*15.2*4mm(长宽高)                联系卖家 免费查找封装)
pins: 1 P0.0/AD0, 2 P0.1/AD1, 3 P0.2/AD2, 4 P0.3/AD3, 5 P0.4/AD4, 6 P0.5/AD5, 7 P0.6/AD6, 8 P0.7/AD7, 9 P1.0/ADC0/CCP1/RXD2, 10 P1.1/ADC1/CCP0/TXD2, 11 P1.2/ADC2/SS/ECI, 12 P1.3/ADC3/MOSI, 13 P1.4/ADC4/MISO, 14 P1.5/ADC5/SCLK, 15 P1.6/ADC6/RXD_3/XTAL2, 16 P1.7/ADC7/TXD_3/XTAL1, 17 P5.4/RST/MCLKO/SS_3, 18 VCC, 19 P5.5, 20 GND, 21 P3.0/RXD/~{INT4}/T2CLKO, 22 P3.1/TXD/T2, 23 P3.2/INT0, 24 P3.3/INT1, 25 P3.4/T0/T1CLKO/ECI_2, 26 P3.5/T1/T0CLKO/CCP0_2, 27 P3.6/~{INT2}/RXD_2/CCP1_2, 28 P3.7/~{INT3}/TXD_2/CCP2/CCP2_2, 29 P4.1/MISO_3, 30 P4.2/~{WR}, 31 P4.4/~{RD}, 32 P2.0/A8/RSTOUT_LOW, 33 P2.1/A9/SCLK_2, 34 P2.2/A10/MISO_2, 35 P2.3/A11/MOSI_2, 36 P2.4/A12/ECI_3/SS_2, 37 P2.5/A13/CCP0_3, 38 P2.6/A14/CCP1_3, 39 P2.7/A15/CCP2_3, 40 P4.5/ALE

## STC15F100W
designator U?
STC单片机; 联系卖家 免费查找封装: 唯一出售店铺网址https://shop463601444.taobao.com; 封装库来自淘宝卖家：黄晶宝石: 其他店铺购入均为盗版封装库，请立即申请退款，本店现金奖励200~1000元; BOM名称: STC单片机
footprint DIP8-300 (9.4*7.6*3.8(长宽高）)
footprint SOP8_L (5*6*1.8mm（长宽高）)
footprint SOP8_N (5*6*1.8mm（长宽高）)
footprint SOP8_M (5*6*1.8mm（长宽高）)
pins: 1 P3.4/~{INT2}, 2 VCC, 3 P3.5/~{INT3}, 4 GND, 5 P3.0/RXD/~{INT4}, 6 P3.1/TXD/T2, 7 P3.2/INT0, 8 P3.3/INT1

## STC15F101W
designator U?
STC单片机; 联系卖家 免费查找封装: 唯一出售店铺网址https://shop463601444.taobao.com; 封装库来自淘宝卖家：黄晶宝石: 其他店铺购入均为盗版封装库，请立即申请退款，本店现金奖励200~1000元; BOM名称: STC单片机
footprint DIP8-300 (9.4*7.6*3.8(长宽高）)
footprint SOP8_L (5*6*1.8mm（长宽高）)
footprint SOP8_N (5*6*1.8mm（长宽高）)
footprint SOP8_M (5*6*1.8mm（长宽高）)
pins: 1 P3.4/~{INT2}, 2 VCC, 3 P3.5/~{INT3}, 4 GND, 5 P3.0/RXD/~{INT4}, 6 P3.1/TXD/T2, 7 P3.2/INT0, 8 P3.3/INT1

## STC15F102W
designator U?
STC单片机; 联系卖家 免费查找封装: 唯一出售店铺网址https://shop463601444.taobao.com; 封装库来自淘宝卖家：黄晶宝石: 其他店铺购入均为盗版封装库，请立即申请退款，本店现金奖励200~1000元; BOM名称: STC单片机
footprint DIP8-300 (9.4*7.6*3.8(长宽高）)
footprint SOP8_L (5*6*1.8mm（长宽高）)
footprint SOP8_N (5*6*1.8mm（长宽高）)
footprint SOP8_M (5*6*1.8mm（长宽高）)
pins: 1 P3.4/~{INT2}, 2 VCC, 3 P3.5/~{INT3}, 4 GND, 5 P3.0/RXD/~{INT4}, 6 P3.1/TXD/T2, 7 P3.2/INT0, 8 P3.3/INT1

## STC15F103W
designator U?
STC单片机; 联系卖家 免费查找封装: 唯一出售店铺网址https://shop463601444.taobao.com; 封装库来自淘宝卖家：黄晶宝石: 其他店铺购入均为盗版封装库，请立即申请退款，本店现金奖励200~1000元; BOM名称: STC单片机
footprint DIP8-300 (9.4*7.6*3.8(长宽高）)
footprint SOP8_L (5*6*1.8mm（长宽高）)
footprint SOP8_N (5*6*1.8mm（长宽高）)
footprint SOP8_M (5*6*1.8mm（长宽高）)
pins: 1 P3.4/~{INT2}, 2 VCC, 3 P3.5/~{INT3}, 4 GND, 5 P3.0/RXD/~{INT4}, 6 P3.1/TXD/T2, 7 P3.2/INT0, 8 P3.3/INT1

## STC15F104W
designator U?
STC单片机; 联系卖家 免费查找封装: 唯一出售店铺网址https://shop463601444.taobao.com; 封装库来自淘宝卖家：黄晶宝石: 其他店铺购入均为盗版封装库，请立即申请退款，本店现金奖励200~1000元; BOM名称: STC单片机
footprint DIP8-300 (9.4*7.6*3.8(长宽高）)
footprint SOP8_L (5*6*1.8mm（长宽高）)
footprint SOP8_N (5*6*1.8mm（长宽高）)
footprint SOP8_M (5*6*1.8mm（长宽高）)
pins: 1 P3.4/~{INT2}, 2 VCC, 3 P3.5/~{INT3}, 4 GND, 5 P3.0/RXD/~{INT4}, 6 P3.1/TXD/T2, 7 P3.2/INT0, 8 P3.3/INT1

## STC15F105W
designator U?
STC单片机; 联系卖家 免费查找封装: 唯一出售店铺网址https://shop463601444.taobao.com; 封装库来自淘宝卖家：黄晶宝石: 其他店铺购入均为盗版封装库，请立即申请退款，本店现金奖励200~1000元; BOM名称: STC单片机
footprint DIP8-300 (9.4*7.6*3.8(长宽高）)
footprint SOP8_L (5*6*1.8mm（长宽高）)
footprint SOP8_N (5*6*1.8mm（长宽高）)
footprint SOP8_M (5*6*1.8mm（长宽高）)
pins: 1 P3.4/~{INT2}, 2 VCC, 3 P3.5/~{INT3}, 4 GND, 5 P3.0/RXD/~{INT4}, 6 P3.1/TXD/T2, 7 P3.2/INT0, 8 P3.3/INT1

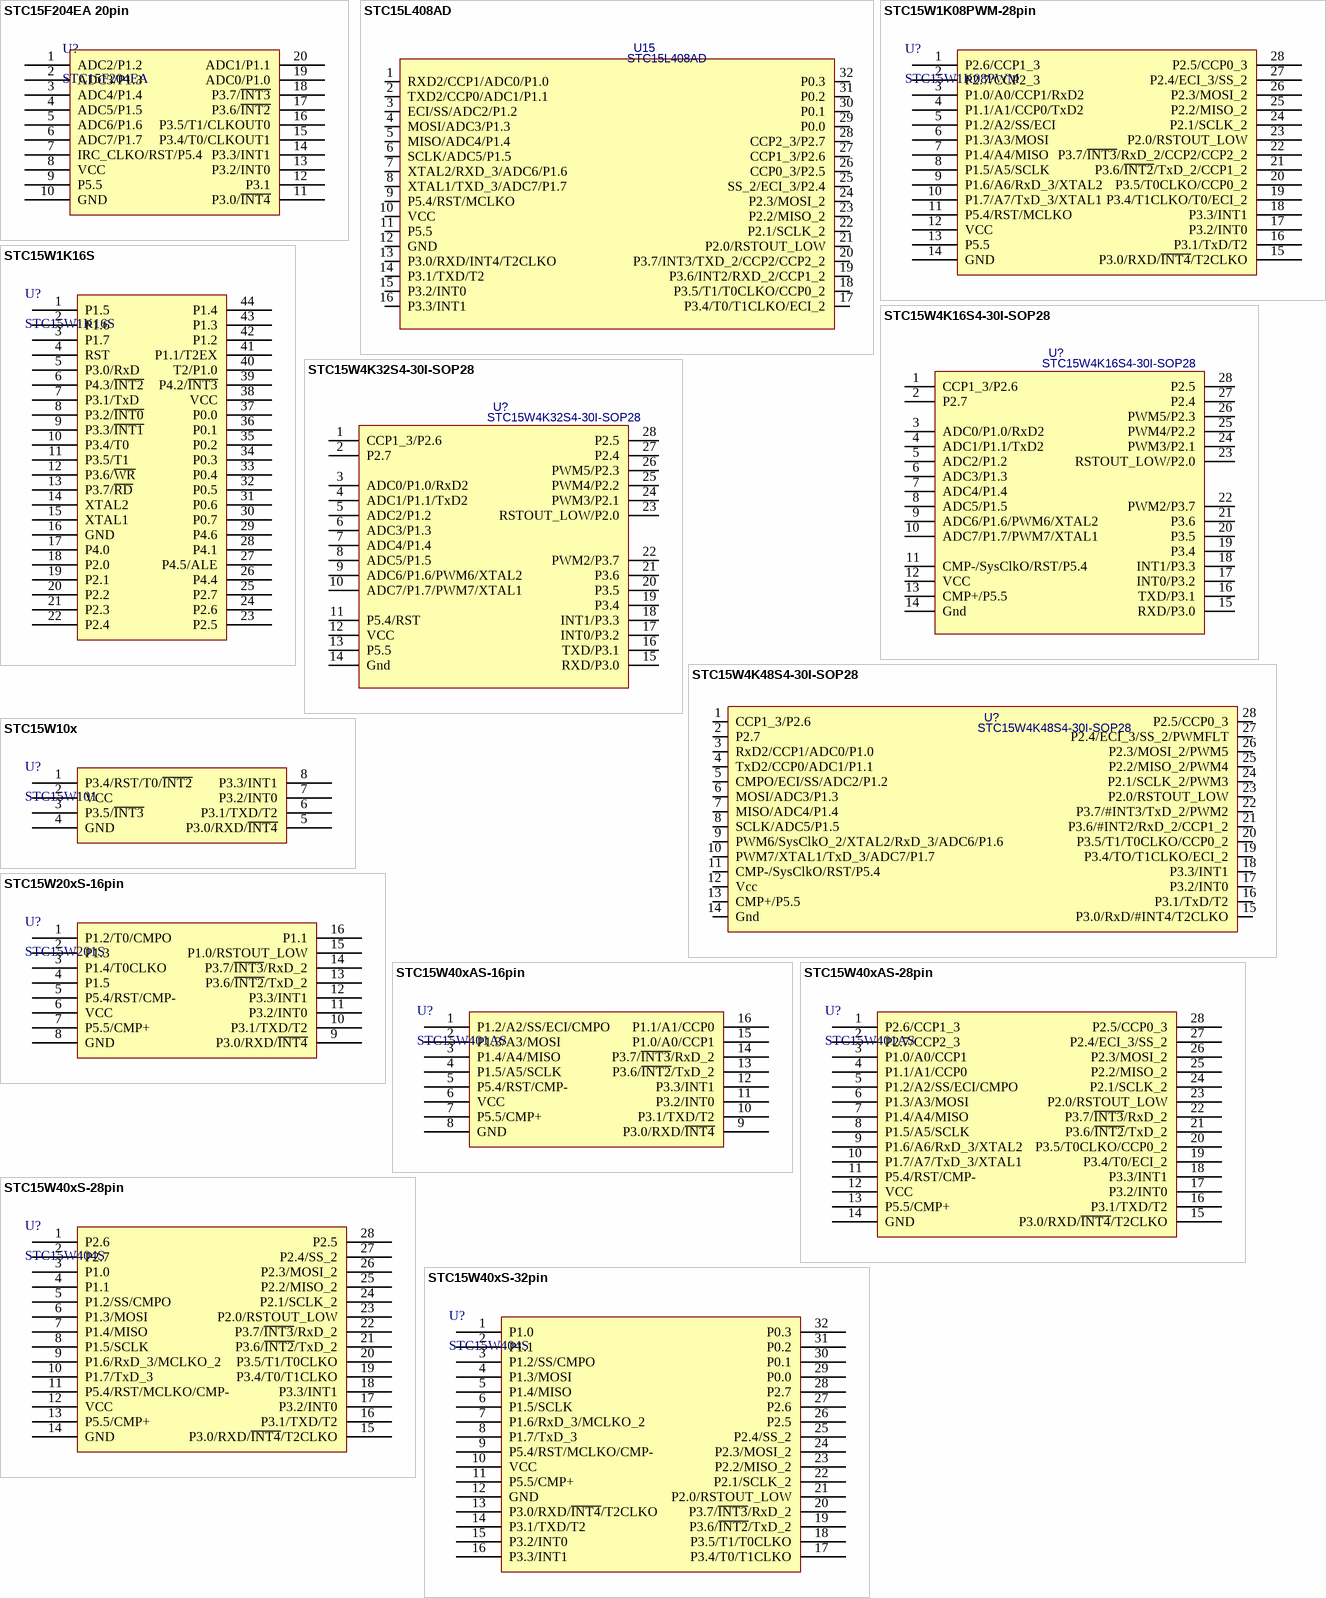
[diagram p4: symbols STC15F204EA 20pin to STC15W40xS-32pin]

## STC15F204EA 20pin
designator U?, comment STC15F204EA
STC单片机; 联系卖家 免费查找封装: 唯一出售店铺网址https://shop463601444.taobao.com; 封装库来自淘宝卖家：黄晶宝石: 其他店铺购入均为盗版封装库，请立即申请退款，本店现金奖励200~1000元; BOM名称: STC单片机
footprint DIP20-300 (26.4*7.6*3.8(长宽高）)
footprint DIP20-300_MH (带底座 26.4*7.6*3.8(长宽高）)
footprint SOP20_L (13*10.6*2.6（长宽高）)
footprint SOP20_N (13*10.6*2.6（长宽高）)
footprint SOP20_M (13*10.6*2.6（长宽高）)
pins: 1 ADC2/P1.2, 2 ADC3/P1.3, 3 ADC4/P1.4, 4 ADC5/P1.5, 5 ADC6/P1.6, 6 ADC7/P1.7, 7 IRC_CLKO/RST/P5.4, 8 VCC, 9 P5.5, 10 GND, 11 P3.0/~{INT4}, 12 P3.1, 13 P3.2/INT0, 14 P3.3/INT1, 15 P3.4/T0/CLKOUT1, 16 P3.5/T1/CLKOUT0, 17 P3.6/~{INT2}, 18 P3.7/~{INT3}, 19 ADC0/P1.0, 20 ADC1/P1.1

## STC15L408AD
designator U15
STC单片机; 联系卖家 免费查找封装: 唯一出售店铺网址https://shop463601444.taobao.com; 封装库来自淘宝卖家：黄晶宝石: 其他店铺购入均为盗版封装库，请立即申请退款，本店现金奖励200~1000元; BOM名称: STC单片机
footprint STM-LQFP32_N (Footprint not found)
pins: 1 RXD2/CCP1/ADC0/P1.0, 2 TXD2/CCP0/ADC1/P1.1, 3 ECI/SS/ADC2/P1.2, 4 MOSI/ADC3/P1.3, 5 MISO/ADC4/P1.4, 6 SCLK/ADC5/P1.5, 7 XTAL2/RXD_3/ADC6/P1.6, 8 XTAL1/TXD_3/ADC7/P1.7, 9 P5.4/RST/MCLKO, 10 VCC, 11 P5.5, 12 GND, 13 P3.0/RXD/INT4/T2CLKO, 14 P3.1/TXD/T2, 15 P3.2/INT0, 16 P3.3/INT1, 17 P3.4/T0/T1CLKO/ECI_2, 18 P3.5/T1/T0CLKO/CCP0_2, 19 P3.6/INT2/RXD_2/CCP1_2, 20 P3.7/INT3/TXD_2/CCP2/CCP2_2, 21 P2.0/RSTOUT_LOW, 22 P2.1/SCLK_2, 23 P2.2/MISO_2, 24 P2.3/MOSI_2, 25 SS_2/ECI_3/P2.4, 26 CCP0_3/P2.5, 27 CCP1_3/P2.6, 28 CCP2_3/P2.7, 29 P0.0, 30 P0.1, 31 P0.2, 32 P0.3

## STC15W1K08PWM-28pin
designator U?, comment STC15W1K08PWM
STC单片机; 联系卖家 免费查找封装: 唯一出售店铺网址https://shop463601444.taobao.com; 封装库来自淘宝卖家：黄晶宝石: 其他店铺购入均为盗版封装库，请立即申请退款，本店现金奖励200~1000元; BOM名称: STC单片机
footprint DIP28-400 (36*10.16*3.8(长宽高）)
footprint SOP28_L (17.9*10.6*2.6mm（长宽高）)
footprint SOP28_N (17.9*10.6*2.6mm（长宽高）)
footprint SOP28_M (17.9*10.6*2.6mm（长宽高）)
pins: 1 P2.6/CCP1_3, 2 P2.7/CCP2_3, 3 P1.0/A0/CCP1/RxD2, 4 P1.1/A1/CCP0/TxD2, 5 P1.2/A2/SS/ECI, 6 P1.3/A3/MOSI, 7 P1.4/A4/MISO, 8 P1.5/A5/SCLK, 9 P1.6/A6/RxD_3/XTAL2, 10 P1.7/A7/TxD_3/XTAL1, 11 P5.4/RST/MCLKO, 12 VCC, 13 P5.5, 14 GND, 15 P3.0/RXD/~{INT4}/T2CLKO, 16 P3.1/TxD/T2, 17 P3.2/INT0, 18 P3.3/INT1, 19 P3.4/T1CLKO/T0/ECI_2, 20 P3.5/T0CLKO/CCP0_2, 21 P3.6/~{INT2}/TxD_2/CCP1_2, 22 P3.7/~{INT3}/RxD_2/CCP2/CCP2_2, 23 P2.0/RSTOUT_LOW, 24 P2.1/SCLK_2, 25 P2.2/MISO_2, 26 P2.3/MOSI_2, 27 P2.4/ECI_3/SS_2, 28 P2.5/CCP0_3

## STC15W1K16S
designator U?
STC单片机; 联系卖家 免费查找封装: 唯一出售店铺网址https://shop463601444.taobao.com; 封装库来自淘宝卖家：黄晶宝石: 其他店铺购入均为盗版封装库，请立即申请退款，本店现金奖励200~1000元; BOM名称: STC单片机
footprint LQFP44 10X10_N (10*10*1.4(长宽高，除引脚）)
footprint LQFP44 10X10_L (10*10*1.4(长宽高，除引脚）)
footprint LQFP44 10X10_M (10*10*1.4(长宽高，除引脚）)
pins: 1 P1.5, 2 P1.6, 3 P1.7, 4 RST, 5 P3.0/RxD, 6 P4.3/~{INT2}, 7 P3.1/TxD, 8 P3.2/~{INT0}, 9 P3.3/~{INT1}, 10 P3.4/T0, 11 P3.5/T1, 12 P3.6/~{WR}, 13 P3.7/~{RD}, 14 XTAL2, 15 XTAL1, 16 GND, 17 P4.0, 18 P2.0, 19 P2.1, 20 P2.2, 21 P2.3, 22 P2.4, 23 P2.5, 24 P2.6, 25 P2.7, 26 P4.4, 27 P4.5/ALE, 28 P4.1, 29 P4.6, 30 P0.7, 31 P0.6, 32 P0.5, 33 P0.4, 34 P0.3, 35 P0.2, 36 P0.1, 37 P0.0, 38 VCC, 39 P4.2/~{INT3}, 40 T2/P1.0, 41 P1.1/T2EX, 42 P1.2, 43 P1.3, 44 P1.4

## STC15W4K16S4-30I-SOP28
designator U?
STC单片机; 联系卖家 免费查找封装: 唯一出售店铺网址https://shop463601444.taobao.com; 封装库来自淘宝卖家：黄晶宝石: 其他店铺购入均为盗版封装库，请立即申请退款，本店现金奖励200~1000元; BOM名称: STC单片机
footprint SOIC-28W (封装库来自淘宝卖家 ID：黄晶宝石)
pins: 1 CCP1_3/P2.6, 2 P2.7, 3 ADC0/P1.0/RxD2, 4 ADC1/P1.1/TxD2, 5 ADC2/P1.2, 6 ADC3/P1.3, 7 ADC4/P1.4, 8 ADC5/P1.5, 9 ADC6/P1.6/PWM6/XTAL2, 10 ADC7/P1.7/PWM7/XTAL1, 11 CMP-/SysClkO/RST/P5.4, 12 VCC, 13 CMP+/P5.5, 14 Gnd, 15 RXD/P3.0, 16 TXD/P3.1, 17 INT0/P3.2, 18 INT1/P3.3, 19 P3.4, 20 P3.5, 21 P3.6, 22 PWM2/P3.7, 23 RSTOUT_LOW/P2.0, 24 PWM3/P2.1, 25 PWM4/P2.2, 26 PWM5/P2.3, 27 P2.4, 28 P2.5

## STC15W4K32S4-30I-SOP28
designator U?
STC单片机; 联系卖家 免费查找封装: 唯一出售店铺网址https://shop463601444.taobao.com; 封装库来自淘宝卖家：黄晶宝石: 其他店铺购入均为盗版封装库，请立即申请退款，本店现金奖励200~1000元; BOM名称: STC单片机
footprint SOIC-28W (封装库来自淘宝卖家 ID：黄晶宝石)
pins: 1 CCP1_3/P2.6, 2 P2.7, 3 ADC0/P1.0/RxD2, 4 ADC1/P1.1/TxD2, 5 ADC2/P1.2, 6 ADC3/P1.3, 7 ADC4/P1.4, 8 ADC5/P1.5, 9 ADC6/P1.6/PWM6/XTAL2, 10 ADC7/P1.7/PWM7/XTAL1, 11 P5.4/RST, 12 VCC, 13 P5.5, 14 Gnd, 15 RXD/P3.0, 16 TXD/P3.1, 17 INT0/P3.2, 18 INT1/P3.3, 19 P3.4, 20 P3.5, 21 P3.6, 22 PWM2/P3.7, 23 RSTOUT_LOW/P2.0, 24 PWM3/P2.1, 25 PWM4/P2.2, 26 PWM5/P2.3, 27 P2.4, 28 P2.5

## STC15W4K48S4-30I-SOP28
designator U?
STC单片机; 联系卖家 免费查找封装: 唯一出售店铺网址https://shop463601444.taobao.com; 封装库来自淘宝卖家：黄晶宝石: 其他店铺购入均为盗版封装库，请立即申请退款，本店现金奖励200~1000元; BOM名称: STC单片机
footprint SOIC-28W (封装库来自淘宝卖家 ID：黄晶宝石)
pins: 1 CCP1_3/P2.6, 2 P2.7, 3 RxD2/CCP1/ADC0/P1.0, 4 TxD2/CCP0/ADC1/P1.1, 5 CMPO/ECI/SS/ADC2/P1.2, 6 MOSI/ADC3/P1.3, 7 MISO/ADC4/P1.4, 8 SCLK/ADC5/P1.5, 9 PWM6/SysClkO_2/XTAL2/RxD_3/ADC6/P1.6, 10 PWM7/XTAL1/TxD_3/ADC7/P1.7, 11 CMP-/SysClkO/RST/P5.4, 12 Vcc, 13 CMP+/P5.5, 14 Gnd, 15 P3.0/RxD/#INT4/T2CLKO, 16 P3.1/TxD/T2, 17 P3.2/INT0, 18 P3.3/INT1, 19 P3.4/TO/T1CLKO/ECI_2, 20 P3.5/T1/T0CLKO/CCP0_2, 21 P3.6/#INT2/RxD_2/CCP1_2, 22 P3.7/#INT3/TxD_2/PWM2, 23 P2.0/RSTOUT_LOW, 24 P2.1/SCLK_2/PWM3, 25 P2.2/MISO_2/PWM4, 26 P2.3/MOSI_2/PWM5, 27 P2.4/ECI_3/SS_2/PWMFLT, 28 P2.5/CCP0_3

## STC15W10x
designator U?, comment STC15W101
STC单片机; 联系卖家 免费查找封装: 唯一出售店铺网址https://shop463601444.taobao.com; 封装库来自淘宝卖家：黄晶宝石: 其他店铺购入均为盗版封装库，请立即申请退款，本店现金奖励200~1000元; BOM名称: STC单片机
footprint DIP8-300 (9.4*7.6*3.8(长宽高）)
footprint SOP8_L (5*6*1.8mm（长宽高）)
footprint SOP8_N (5*6*1.8mm（长宽高）)
footprint SOP8_M (5*6*1.8mm（长宽高）)
pins: 1 P3.4/RST/T0/~{INT2}, 2 VCC, 3 P3.5/~{INT3}, 4 GND, 5 P3.0/RXD/~{INT4}, 6 P3.1/TXD/T2, 7 P3.2/INT0, 8 P3.3/INT1

## STC15W20xS-16pin
designator U?, comment STC15W201S
STC单片机; 联系卖家 免费查找封装: 唯一出售店铺网址https://shop463601444.taobao.com; 封装库来自淘宝卖家：黄晶宝石: 其他店铺购入均为盗版封装库，请立即申请退款，本店现金奖励200~1000元; BOM名称: STC单片机
footprint DIP16-300 (19.3*7.6*3.8(长宽高）)
footprint SOP16_L (10.3*6.2*1.8mm（长宽高）)
footprint SOP16_N (10.3*6.2*1.8mm（长宽高）)
footprint SOP16_M (10.3*6.2*1.8mm（长宽高）)
pins: 1 P1.2/T0/CMPO, 2 P1.3, 3 P1.4/T0CLKO, 4 P1.5, 5 P5.4/RST/CMP-, 6 VCC, 7 P5.5/CMP+, 8 GND, 9 P3.0/RXD/~{INT4}, 10 P3.1/TXD/T2, 11 P3.2/INT0, 12 P3.3/INT1, 13 P3.6/~{INT2}/TxD_2, 14 P3.7/~{INT3}/RxD_2, 15 P1.0/RSTOUT_LOW, 16 P1.1

## STC15W40xAS-16pin
designator U?, comment STC15W401AS
STC单片机; 联系卖家 免费查找封装: 唯一出售店铺网址https://shop463601444.taobao.com; 封装库来自淘宝卖家：黄晶宝石: 其他店铺购入均为盗版封装库，请立即申请退款，本店现金奖励200~1000元; BOM名称: STC单片机
footprint DIP16-300 (19.3*7.6*3.8(长宽高）)
footprint SOP16_L (10.3*6.2*1.8mm（长宽高）)
footprint SOP16_N (10.3*6.2*1.8mm（长宽高）)
footprint SOP16_M (10.3*6.2*1.8mm（长宽高）)
pins: 1 P1.2/A2/SS/ECI/CMPO, 2 P1.3/A3/MOSI, 3 P1.4/A4/MISO, 4 P1.5/A5/SCLK, 5 P5.4/RST/CMP-, 6 VCC, 7 P5.5/CMP+, 8 GND, 9 P3.0/RXD/~{INT4}, 10 P3.1/TXD/T2, 11 P3.2/INT0, 12 P3.3/INT1, 13 P3.6/~{INT2}/TxD_2, 14 P3.7/~{INT3}/RxD_2, 15 P1.0/A0/CCP1, 16 P1.1/A1/CCP0

## STC15W40xAS-28pin
designator U?, comment STC15W401AS
STC单片机; 联系卖家 免费查找封装: 唯一出售店铺网址https://shop463601444.taobao.com; 封装库来自淘宝卖家：黄晶宝石: 其他店铺购入均为盗版封装库，请立即申请退款，本店现金奖励200~1000元; BOM名称: STC单片机
footprint DIP28-400 (36*10.16*3.8(长宽高）)
footprint SOP28_L (17.9*10.6*2.6mm（长宽高）)
footprint SOP28_N (17.9*10.6*2.6mm（长宽高）)
footprint SOP28_M (17.9*10.6*2.6mm（长宽高）)
pins: 1 P2.6/CCP1_3, 2 P2.7/CCP2_3, 3 P1.0/A0/CCP1, 4 P1.1/A1/CCP0, 5 P1.2/A2/SS/ECI/CMPO, 6 P1.3/A3/MOSI, 7 P1.4/A4/MISO, 8 P1.5/A5/SCLK, 9 P1.6/A6/RxD_3/XTAL2, 10 P1.7/A7/TxD_3/XTAL1, 11 P5.4/RST/CMP-, 12 VCC, 13 P5.5/CMP+, 14 GND, 15 P3.0/RXD/~{INT4}/T2CLKO, 16 P3.1/TXD/T2, 17 P3.2/INT0, 18 P3.3/INT1, 19 P3.4/T0/ECI_2, 20 P3.5/T0CLKO/CCP0_2, 21 P3.6/~{INT2}/TxD_2, 22 P3.7/~{INT3}/RxD_2, 23 P2.0/RSTOUT_LOW, 24 P2.1/SCLK_2, 25 P2.2/MISO_2, 26 P2.3/MOSI_2, 27 P2.4/ECI_3/SS_2, 28 P2.5/CCP0_3

## STC15W40xS-28pin
designator U?, comment STC15W404S
STC单片机; 联系卖家 免费查找封装: 唯一出售店铺网址https://shop463601444.taobao.com; 封装库来自淘宝卖家：黄晶宝石: 其他店铺购入均为盗版封装库，请立即申请退款，本店现金奖励200~1000元; BOM名称: STC单片机
footprint DIP28-400 (36*10.16*3.8(长宽高）)
footprint SOP28_L (17.9*10.6*2.6mm（长宽高）)
footprint SOP28_N (17.9*10.6*2.6mm（长宽高）)
footprint SOP28_M (17.9*10.6*2.6mm（长宽高）)
pins: 1 P2.6, 2 P2.7, 3 P1.0, 4 P1.1, 5 P1.2/SS/CMPO, 6 P1.3/MOSI, 7 P1.4/MISO, 8 P1.5/SCLK, 9 P1.6/RxD_3/MCLKO_2, 10 P1.7/TxD_3, 11 P5.4/RST/MCLKO/CMP-, 12 VCC, 13 P5.5/CMP+, 14 GND, 15 P3.0/RXD/~{INT4}/T2CLKO, 16 P3.1/TXD/T2, 17 P3.2/INT0, 18 P3.3/INT1, 19 P3.4/T0/T1CLKO, 20 P3.5/T1/T0CLKO, 21 P3.6/~{INT2}/TxD_2, 22 P3.7/~{INT3}/RxD_2, 23 P2.0/RSTOUT_LOW, 24 P2.1/SCLK_2, 25 P2.2/MISO_2, 26 P2.3/MOSI_2, 27 P2.4/SS_2, 28 P2.5

## STC15W40xS-32pin
designator U?, comment STC15W404S
STC单片机; 联系卖家 免费查找封装: 唯一出售店铺网址https://shop463601444.taobao.com; 封装库来自淘宝卖家：黄晶宝石: 其他店铺购入均为盗版封装库，请立即申请退款，本店现金奖励200~1000元; BOM名称: STC单片机
footprint LQFP32 7x7_L (7*7*1.4(长宽高，除引脚）)
footprint LQFP32 7x7_N (7*7*1.4(长宽高，除引脚）)
footprint LQFP32 7x7_M (7*7*1.4(长宽高，除引脚）)
pins: 1 P1.0, 2 P1.1, 3 P1.2/SS/CMPO, 4 P1.3/MOSI, 5 P1.4/MISO, 6 P1.5/SCLK, 7 P1.6/RxD_3/MCLKO_2, 8 P1.7/TxD_3, 9 P5.4/RST/MCLKO/CMP-, 10 VCC, 11 P5.5/CMP+, 12 GND, 13 P3.0/RXD/~{INT4}/T2CLKO, 14 P3.1/TXD/T2, 15 P3.2/INT0, 16 P3.3/INT1, 17 P3.4/T0/T1CLKO, 18 P3.5/T1/T0CLKO, 19 P3.6/~{INT2}/TxD_2, 20 P3.7/~{INT3}/RxD_2, 21 P2.0/RSTOUT_LOW, 22 P2.1/SCLK_2, 23 P2.2/MISO_2, 24 P2.3/MOSI_2, 25 P2.4/SS_2, 26 P2.5, 27 P2.6, 28 P2.7, 29 P0.0, 30 P0.1, 31 P0.2, 32 P0.3

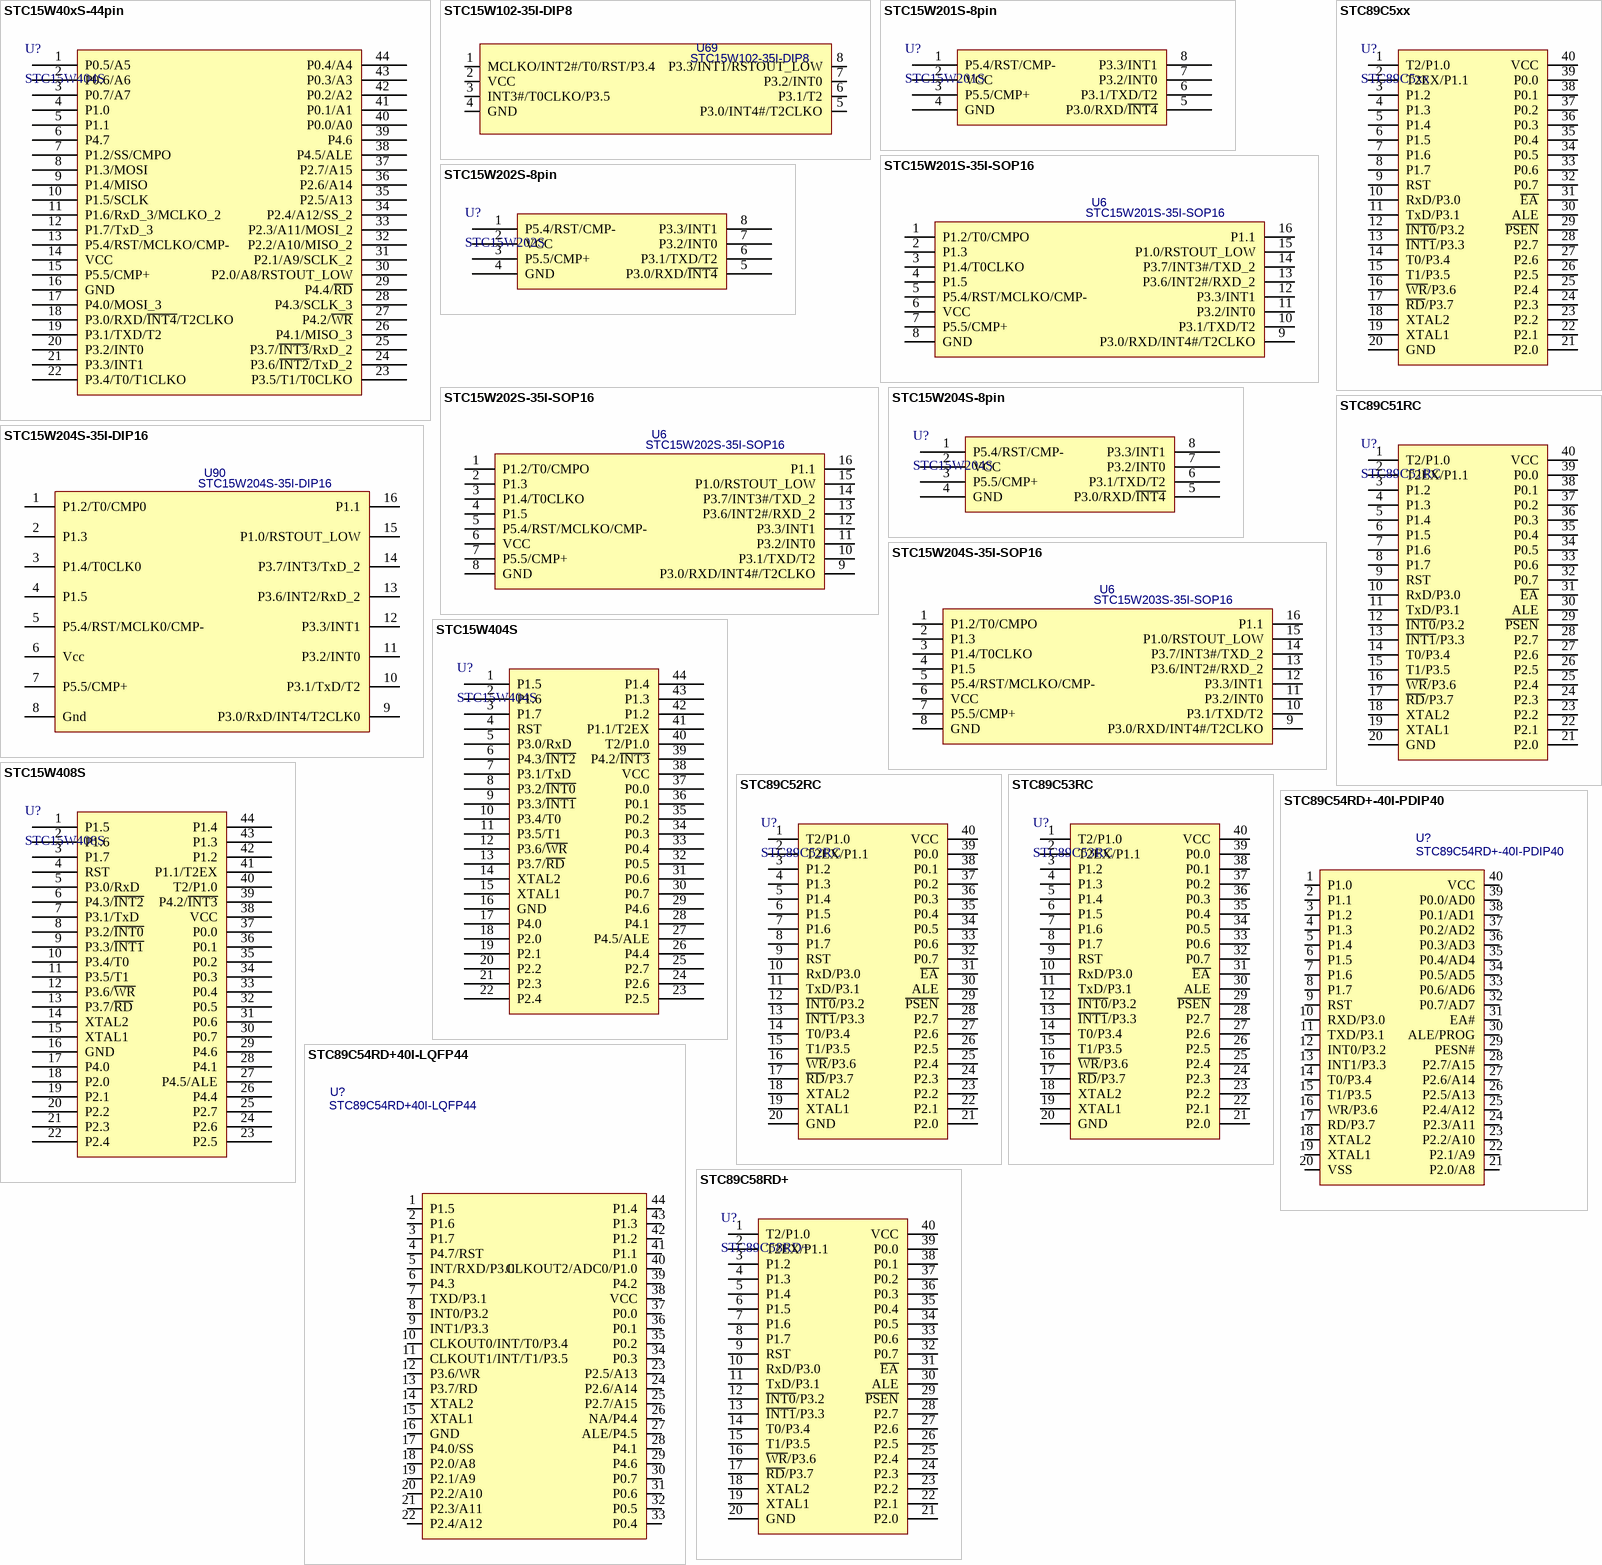
[diagram p5: symbols STC15W40xS-44pin to STC89C58RD+]

## STC15W40xS-44pin
designator U?, comment STC15W404S
STC单片机; 联系卖家 免费查找封装: 唯一出售店铺网址https://shop463601444.taobao.com; 封装库来自淘宝卖家：黄晶宝石: 其他店铺购入均为盗版封装库，请立即申请退款，本店现金奖励200~1000元; BOM名称: STC单片机
footprint LQFP44 10x10_L (10*10*1.4(长宽高，除引脚）)
footprint LQFP44 10x10_N (10*10*1.4(长宽高，除引脚）)
footprint LQFP44 10x10_M (10*10*1.4(长宽高，除引脚）)
pins: 1 P0.5/A5, 2 P0.6/A6, 3 P0.7/A7, 4 P1.0, 5 P1.1, 6 P4.7, 7 P1.2/SS/CMPO, 8 P1.3/MOSI, 9 P1.4/MISO, 10 P1.5/SCLK, 11 P1.6/RxD_3/MCLKO_2, 12 P1.7/TxD_3, 13 P5.4/RST/MCLKO/CMP-, 14 VCC, 15 P5.5/CMP+, 16 GND, 17 P4.0/MOSI_3, 18 P3.0/RXD/~{INT4}/T2CLKO, 19 P3.1/TXD/T2, 20 P3.2/INT0, 21 P3.3/INT1, 22 P3.4/T0/T1CLKO, 23 P3.5/T1/T0CLKO, 24 P3.6/~{INT2}/TxD_2, 25 P3.7/~{INT3}/RxD_2, 26 P4.1/MISO_3, 27 P4.2/~{WR}, 28 P4.3/SCLK_3, 29 P4.4/~{RD}, 30 P2.0/A8/RSTOUT_LOW, 31 P2.1/A9/SCLK_2, 32 P2.2/A10/MISO_2, 33 P2.3/A11/MOSI_2, 34 P2.4/A12/SS_2, 35 P2.5/A13, 36 P2.6/A14, 37 P2.7/A15, 38 P4.5/ALE, 39 P4.6, 40 P0.0/A0, 41 P0.1/A1, 42 P0.2/A2, 43 P0.3/A3, 44 P0.4/A4

## STC15W102-35I-DIP8
designator U69
STC单片机; 联系卖家 免费查找封装: 唯一出售店铺网址https://shop463601444.taobao.com; 封装库来自淘宝卖家：黄晶宝石: 其他店铺购入均为盗版封装库，请立即申请退款，本店现金奖励200~1000元; BOM名称: STC单片机
footprint DIP8-300 (9.4*7.6*3.8(长宽高）)
pins: 1 MCLKO/INT2#/T0/RST/P3.4, 2 VCC, 3 INT3#/T0CLKO/P3.5, 4 GND, 5 P3.0/INT4#/T2CLKO, 6 P3.1/T2, 7 P3.2/INT0, 8 P3.3/INT1/RSTOUT_LOW

## STC15W201S-8pin
designator U?, comment STC15W201S
STC单片机; 联系卖家 免费查找封装: 唯一出售店铺网址https://shop463601444.taobao.com; 封装库来自淘宝卖家：黄晶宝石: 其他店铺购入均为盗版封装库，请立即申请退款，本店现金奖励200~1000元; BOM名称: STC单片机
footprint DIP8-300 (9.4*7.6*3.8(长宽高）)
footprint SOIC-8_150mil (封装库来自淘宝卖家 ID：黄晶宝石)
pins: 1 P5.4/RST/CMP-, 2 VCC, 3 P5.5/CMP+, 4 GND, 5 P3.0/RXD/~{INT4}, 6 P3.1/TXD/T2, 7 P3.2/INT0, 8 P3.3/INT1

## STC15W201S-35I-SOP16
designator U6
STC单片机; 联系卖家 免费查找封装: 唯一出售店铺网址https://shop463601444.taobao.com; 封装库来自淘宝卖家：黄晶宝石: 其他店铺购入均为盗版封装库，请立即申请退款，本店现金奖励200~1000元; BOM名称: STC单片机
footprint SOIC-16 (封装库来自淘宝卖家 ID：黄晶宝石)
pins: 1 P1.2/T0/CMPO, 2 P1.3, 3 P1.4/T0CLKO, 4 P1.5, 5 P5.4/RST/MCLKO/CMP-, 6 VCC, 7 P5.5/CMP+, 8 GND, 9 P3.0/RXD/INT4#/T2CLKO, 10 P3.1/TXD/T2, 11 P3.2/INT0, 12 P3.3/INT1, 13 P3.6/INT2#/RXD_2, 14 P3.7/INT3#/TXD_2, 15 P1.0/RSTOUT_LOW, 16 P1.1

## STC15W202S-8pin
designator U?, comment STC15W202S
STC单片机; 联系卖家 免费查找封装: 唯一出售店铺网址https://shop463601444.taobao.com; 封装库来自淘宝卖家：黄晶宝石: 其他店铺购入均为盗版封装库，请立即申请退款，本店现金奖励200~1000元; BOM名称: STC单片机
footprint DIP8-300 (9.4*7.6*3.8(长宽高）)
footprint SOIC-8_150mil (封装库来自淘宝卖家 ID：黄晶宝石)
pins: 1 P5.4/RST/CMP-, 2 VCC, 3 P5.5/CMP+, 4 GND, 5 P3.0/RXD/~{INT4}, 6 P3.1/TXD/T2, 7 P3.2/INT0, 8 P3.3/INT1

## STC15W202S-35I-SOP16
designator U6
STC单片机; 联系卖家 免费查找封装: 唯一出售店铺网址https://shop463601444.taobao.com; 封装库来自淘宝卖家：黄晶宝石: 其他店铺购入均为盗版封装库，请立即申请退款，本店现金奖励200~1000元; BOM名称: STC单片机
footprint SOIC-16 (封装库来自淘宝卖家 ID：黄晶宝石)
pins: 1 P1.2/T0/CMPO, 2 P1.3, 3 P1.4/T0CLKO, 4 P1.5, 5 P5.4/RST/MCLKO/CMP-, 6 VCC, 7 P5.5/CMP+, 8 GND, 9 P3.0/RXD/INT4#/T2CLKO, 10 P3.1/TXD/T2, 11 P3.2/INT0, 12 P3.3/INT1, 13 P3.6/INT2#/RXD_2, 14 P3.7/INT3#/TXD_2, 15 P1.0/RSTOUT_LOW, 16 P1.1

## STC15W204S-8pin
designator U?, comment STC15W204S
STC单片机; 联系卖家 免费查找封装: 唯一出售店铺网址https://shop463601444.taobao.com; 封装库来自淘宝卖家：黄晶宝石: 其他店铺购入均为盗版封装库，请立即申请退款，本店现金奖励200~1000元; BOM名称: STC单片机
footprint DIP8-300 (9.4*7.6*3.8(长宽高）)
footprint SOIC-8_150mil (封装库来自淘宝卖家 ID：黄晶宝石)
pins: 1 P5.4/RST/CMP-, 2 VCC, 3 P5.5/CMP+, 4 GND, 5 P3.0/RXD/~{INT4}, 6 P3.1/TXD/T2, 7 P3.2/INT0, 8 P3.3/INT1